# Altium schematic symbol library Schlib_Connfly.SchLib: 126 symbols
Pins are listed as number, name and electrical type; pins without a type are passive.

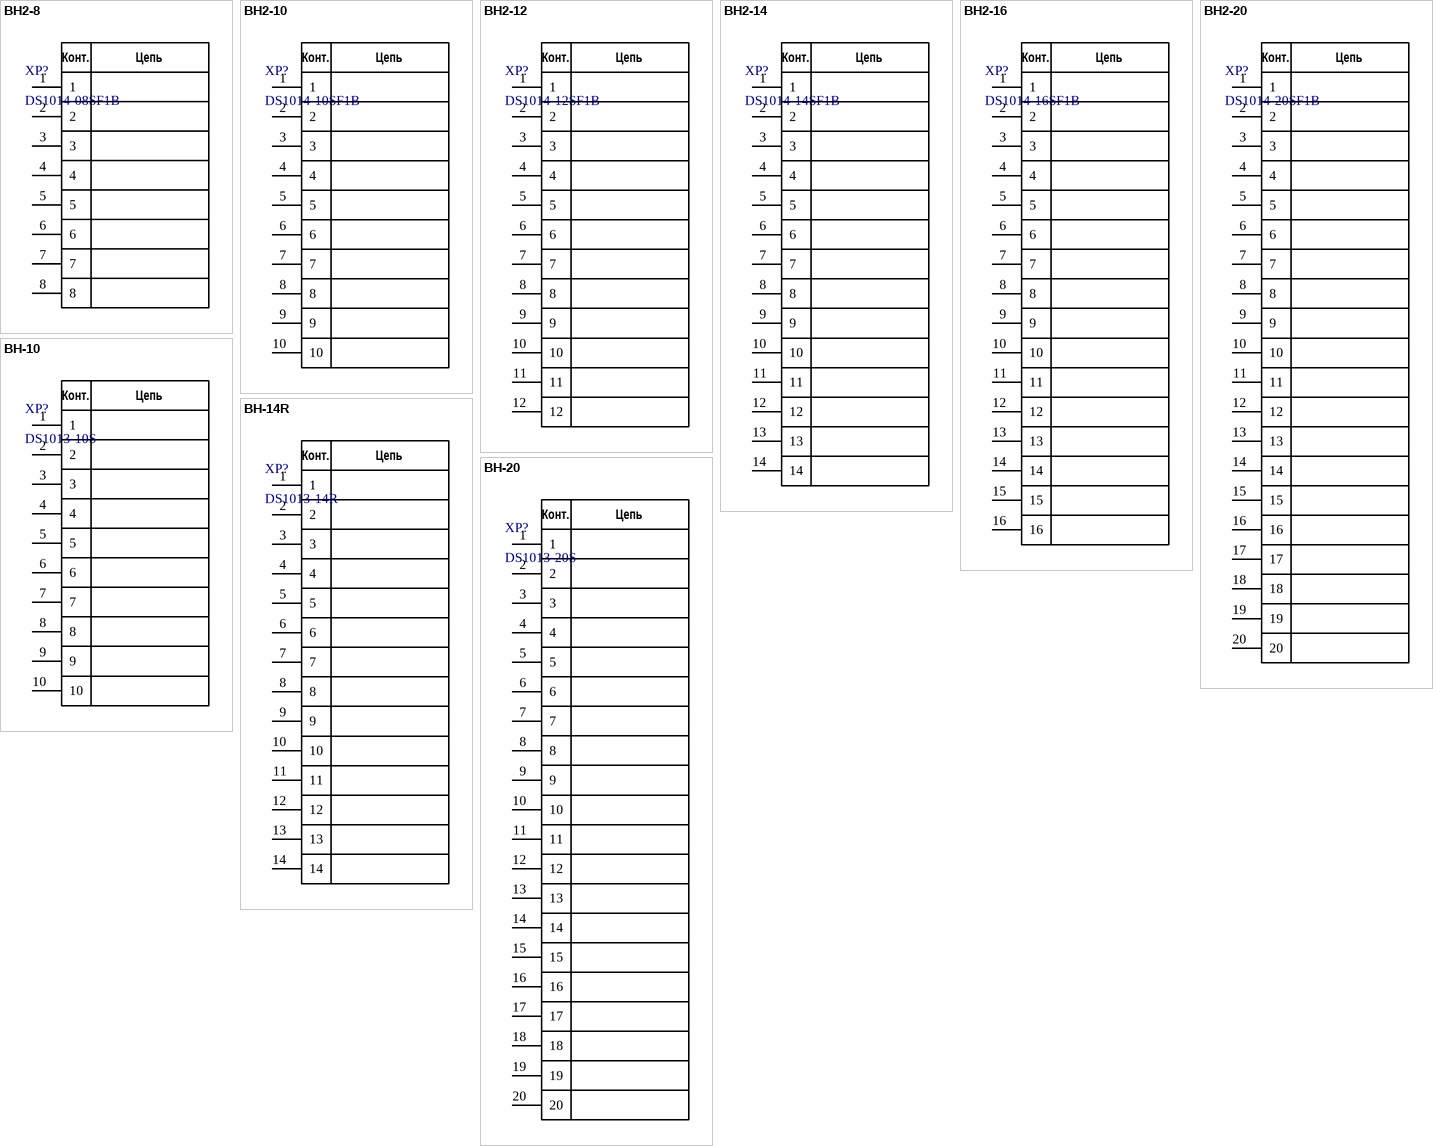
[diagram p0: symbols BH2-8 to BH-20]

## BH2-8
designator XP?, comment DS1014-08SF1B
8-pin 2.0 mm Box header elevator type; Manufacturer: Connfly; Part Number: DS1014-08SF1B
footprint BH2-8
pins: 1, 2, 3, 4, 5, 6, 7, 8
text: Конт.; Цепь

## BH2-10
designator XP?, comment DS1014-10SF1B
10-pin 2.0 mm Box header elevator type; Manufacturer: Connfly; Part Number: DS1014-10SF1B
footprint BH2-10
pins: 1, 2, 3, 4, 5, 6, 7, 8, 9, 10
text: Конт.; Цепь

## BH2-12
designator XP?, comment DS1014-12SF1B
12-pin 2.0 mm Box header elevator type; Manufacturer: Connfly; Part Number: DS1014-12SF1B
footprint BH2-12
pins: 1, 2, 3, 4, 5, 6, 7, 8, 9, 10, 11, 12
text: Конт.; Цепь

## BH2-14
designator XP?, comment DS1014-14SF1B
14-pin 2.0 mm Box header elevator type; Manufacturer: Connfly; Part Number: DS1014-14SF1B
footprint BH2-14
pins: 1, 2, 3, 4, 5, 6, 7, 8, 9, 10, 11, 12, 13, 14
text: Конт.; Цепь

## BH2-16
designator XP?, comment DS1014-16SF1B
16-pin 2.0 mm Box header elevator type; Manufacturer: Connfly; Part Number: DS1014-16SF1B
footprint BH2-16
pins: 1, 2, 3, 4, 5, 6, 7, 8, 9, 10, 11, 12, 13, 14, 15, 16
text: Конт.; Цепь

## BH2-20
designator XP?, comment DS1014-20SF1B
20-pin 2.0 mm Box header elevator type; Manufacturer: Connfly; Part Number: DS1014-20SF1B
footprint BH2-20
pins: 1, 2, 3, 4, 5, 6, 7, 8, 9, 10, 11, 12, 13, 14, 15, 16, 17, 18, 19, 20
text: Конт.; Цепь

## BH-10
designator XP?, comment DS1013-10S
10-pin 2.54 mm Box header elevator type; Manufacturer: Connfly; Part Number: DS1013-10S
footprint BH-10 (DS1013-10S CONNFLY)
pins: 1, 2, 3, 4, 5, 6, 7, 8, 9, 10
text: Конт.; Цепь

## BH-14R
designator XP?, comment DS1013-14R
14-pin 2.54 mm Box header elevator type, right angle; Manufacturer: Connfly; Part Number: DS1013-14R
footprint BH-14R
pins: 1, 2, 3, 4, 5, 6, 7, 8, 9, 10, 11, 12, 13, 14
text: Конт.; Цепь

## BH-20
designator XP?, comment DS1013-20S
20-pin 2.54 mm Box header elevator type; Manufacturer: Connfly; Part Number: DS1013-20S
footprint BH-20
pins: 1, 2, 3, 4, 5, 6, 7, 8, 9, 10, 11, 12, 13, 14, 15, 16, 17, 18, 19, 20
text: Конт.; Цепь

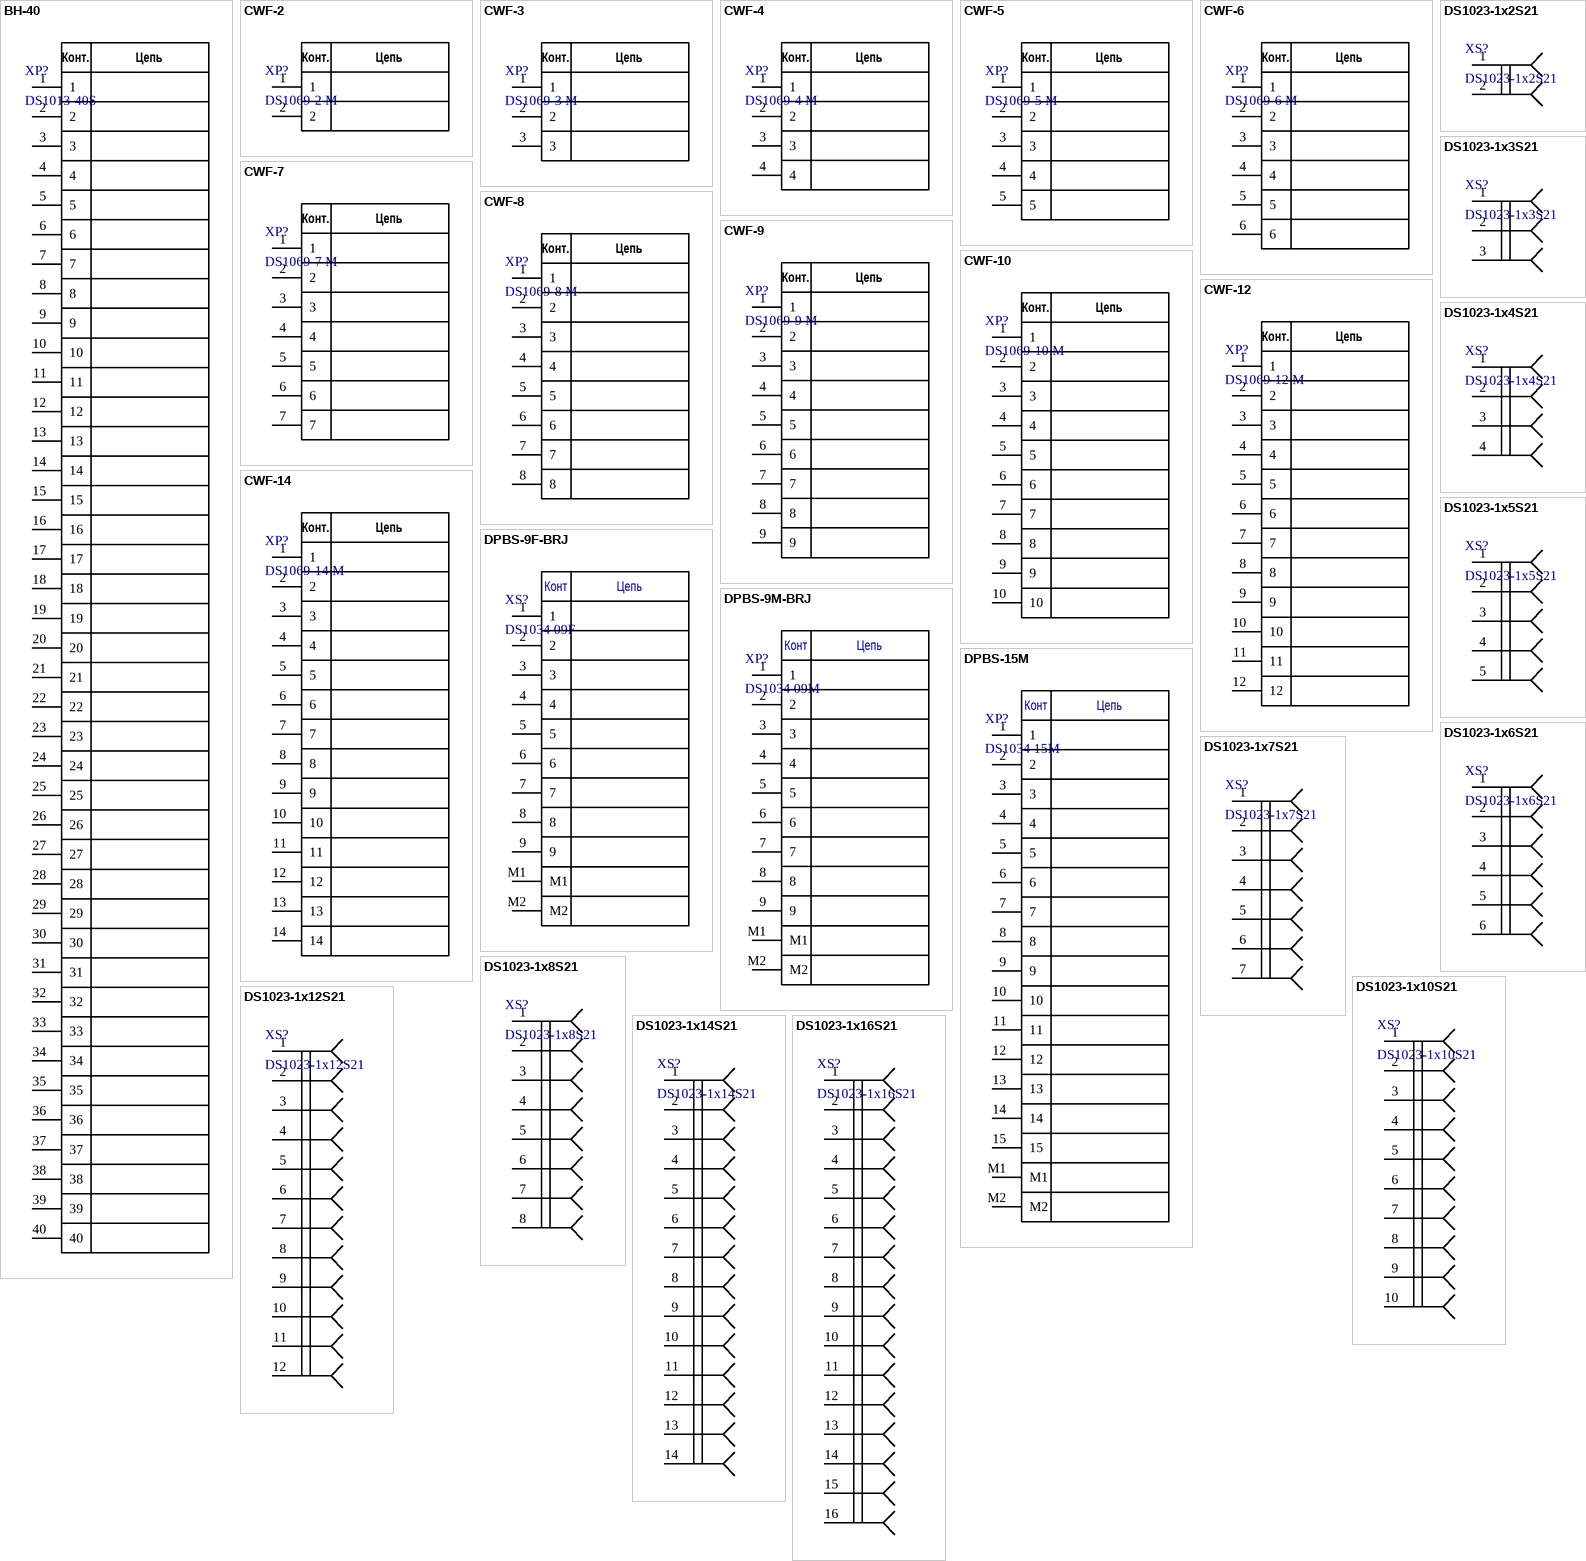
[diagram p1: symbols BH-40 to DS1023-1x16S21]

## BH-40
designator XP?, comment DS1013-40S
40-pin 2.54 mm Box header elevator type; Manufacturer: Connfly; Part Number: DS1013-40S
footprint BH-40R
pins: 1, 2, 3, 4, 5, 6, 7, 8, 9, 10, 11, 12, 13, 14, 15, 16, 17, 18, 19, 20, 21, 22, 23, 24, 25, 26, 27, 28, 29, 30, 31, 32, 33, 34, 35, 36, 37, 38, 39, 40
text: Конт.; Цепь

## CWF-2
designator XP?, comment DS1069-2 M
2-pin connector 2.5mm XH Type; Manufacturer: Connfly; Part Number: DS1069-2 M
footprint CWF-2
pins: 1, 2
text: Конт.; Цепь

## CWF-3
designator XP?, comment DS1069-3 M
3-pin connector 2.5mm XH Type; Manufacturer: Connfly; Part Number: DS1069-3 M
footprint CWF-3
pins: 1, 2, 3
text: Конт.; Цепь

## CWF-4
designator XP?, comment DS1069-4 M
4-pin connector 2.5mm XH Type; Manufacturer: Connfly; Part Number: DS1069-4 M
footprint CWF-4
pins: 1, 2, 3, 4
text: Конт.; Цепь

## CWF-5
designator XP?, comment DS1069-5 M
5-pin connector 2.5mm XH Type; Manufacturer: Connfly; Part Number: DS1069-5 M
footprint CWF-5
pins: 1, 2, 3, 4, 5
text: Конт.; Цепь

## CWF-6
designator XP?, comment DS1069-6 M
6-pin connector 2.5mm XH Type; Manufacturer: Connfly; Part Number: DS1069-6 M
footprint CWF-6
pins: 1, 2, 3, 4, 5, 6
text: Конт.; Цепь

## CWF-7
designator XP?, comment DS1069-7 M
7-pin connector 2.5mm XH Type; Manufacturer: Connfly; Part Number: DS1069-7 M
footprint CWF-7
pins: 1, 2, 3, 4, 5, 6, 7
text: Конт.; Цепь

## CWF-8
designator XP?, comment DS1069-8 M
8-pin connector 2.5mm XH Type; Manufacturer: Connfly; Part Number: DS1069-8 M
footprint CWF-8
pins: 1, 2, 3, 4, 5, 6, 7, 8
text: Конт.; Цепь

## CWF-9
designator XP?, comment DS1069-9 M
9-pin connector 2.5mm XH Type; Manufacturer: Connfly; Part Number: DS1069-9 M
footprint CWF-9
pins: 1, 2, 3, 4, 5, 6, 7, 8, 9
text: Конт.; Цепь

## CWF-10
designator XP?, comment DS1069-10 M
10-pin connector 2.5mm XH Type; Manufacturer: Connfly; Part Number: DS1069-10 M
footprint CWF-10
pins: 1, 2, 3, 4, 5, 6, 7, 8, 9, 10
text: Конт.; Цепь

## CWF-12
designator XP?, comment DS1069-12 M
12-pin connector 2.5mm XH Type; Manufacturer: Connfly; Part Number: DS1069-12 M
footprint CWF-12
pins: 1, 2, 3, 4, 5, 6, 7, 8, 9, 10, 11, 12
text: Конт.; Цепь

## CWF-14
designator XP?, comment DS1069-14 M
14-pin connector 2.5mm XH Type; Manufacturer: Connfly; Part Number: DS1069-14 M
footprint CWF-14
pins: 1, 2, 3, 4, 5, 6, 7, 8, 9, 10, 11, 12, 13, 14
text: Конт.; Цепь

## DPBS-9F-BRJ
designator XS?, comment DS1034 09F
D-SUB 9pin Female; Manufacturer: Connfly; Part Number: DS1034 09F
footprint DPBS-9F
pins: 1, 2, 3, 4, 5, 6, 7, 8, 9, M1, M2
text: Конт; Цепь

## DPBS-9M-BRJ
designator XP?, comment DS1034 09M
D-SUB 9pin Male; Manufacturer: Connfly; Part Number: DS1034 09M
footprint DPBS-9M
pins: 1, 2, 3, 4, 5, 6, 7, 8, 9, M1, M2
text: Конт; Цепь

## DPBS-15M
designator XP?, comment DS1034 15M
D-SUB 15pin Male; Manufacturer: Connfly; Part Number: DS1034 15M
footprint DPBS-15M
pins: 1, 2, 3, 4, 5, 6, 7, 8, 9, 10, 11, 12, 13, 14, 15, M1, M2
text: Конт; Цепь

## DS1023-1x2S21
designator XS?
2.54mm Female Header V/T Type, H = 8.5mm; Manufacturer: Connfly; Part Number: DS1023-1x2S21
footprint PBS-2 (H = 8.5mm)
pins: 1, 2

## DS1023-1x3S21
designator XS?
2.54mm Female Header V/T Type, H = 8.5mm; Manufacturer: Connfly; Part Number: DS1023-1x3S21
footprint PBS-3 (H = 8.5mm)
pins: 1, 2, 3

## DS1023-1x4S21
designator XS?
2.54mm Female Header V/T Type, H = 8.5mm; Manufacturer: Connfly; Part Number: DS1023-1x4S21
footprint PBS-4 (H = 8.5mm)
pins: 1, 2, 3, 4

## DS1023-1x5S21
designator XS?
2.54mm Female Header V/T Type, H = 8.5mm; Manufacturer: Connfly; Part Number: DS1023-1x5S21
footprint PBS-5 (H = 8.5mm)
pins: 1, 2, 3, 4, 5

## DS1023-1x6S21
designator XS?
2.54mm Female Header V/T Type, H = 8.5mm; Manufacturer: Connfly; Part Number: DS1023-1x6S21
footprint PBS-6 (H = 8.5mm)
footprint PBS-6(blue) (H = 8.5mm)
pins: 1, 2, 3, 4, 5, 6

## DS1023-1x7S21
designator XS?
2.54mm Female Header V/T Type, H = 8.5mm; Manufacturer: Connfly; Part Number: DS1023-1x7S21
footprint PBS-7 (H = 8.5mm)
pins: 1, 2, 3, 4, 5, 6, 7

## DS1023-1x8S21
designator XS?
2.54mm Female Header V/T Type, H = 8.5mm; Manufacturer: Connfly; Part Number: DS1023-1x8S21
footprint PBS-8 (H = 8.5mm)
footprint PBS-8(BLUE) (H = 8.5mm)
pins: 1, 2, 3, 4, 5, 6, 7, 8

## DS1023-1x10S21
designator XS?
2.54mm Female Header V/T Type, H = 8.5mm; Manufacturer: Connfly; Part Number: DS1023-1x10S21
footprint PBS-10 (H = 8.5mm)
footprint PBS-10(BLUE) (H = 8.5mm)
pins: 1, 2, 3, 4, 5, 6, 7, 8, 9, 10

## DS1023-1x12S21
designator XS?
2.54mm Female Header V/T Type, H = 8.5mm; Manufacturer: Connfly; Part Number: DS1023-1x12S21
footprint PBS-12 (H = 8.5mm)
pins: 1, 2, 3, 4, 5, 6, 7, 8, 9, 10, 11, 12

## DS1023-1x14S21
designator XS?
2.54mm Female Header V/T Type, H = 8.5mm; Manufacturer: Connfly; Part Number: DS1023-1x14S21
footprint PBS-14 (H = 8.5mm)
pins: 1, 2, 3, 4, 5, 6, 7, 8, 9, 10, 11, 12, 13, 14

## DS1023-1x16S21
designator XS?
2.54mm Female Header V/T Type, H = 8.5mm; Manufacturer: Connfly; Part Number: DS1023-1x16S21
footprint PBS-16 (H = 8.5mm)
pins: 1, 2, 3, 4, 5, 6, 7, 8, 9, 10, 11, 12, 13, 14, 15, 16

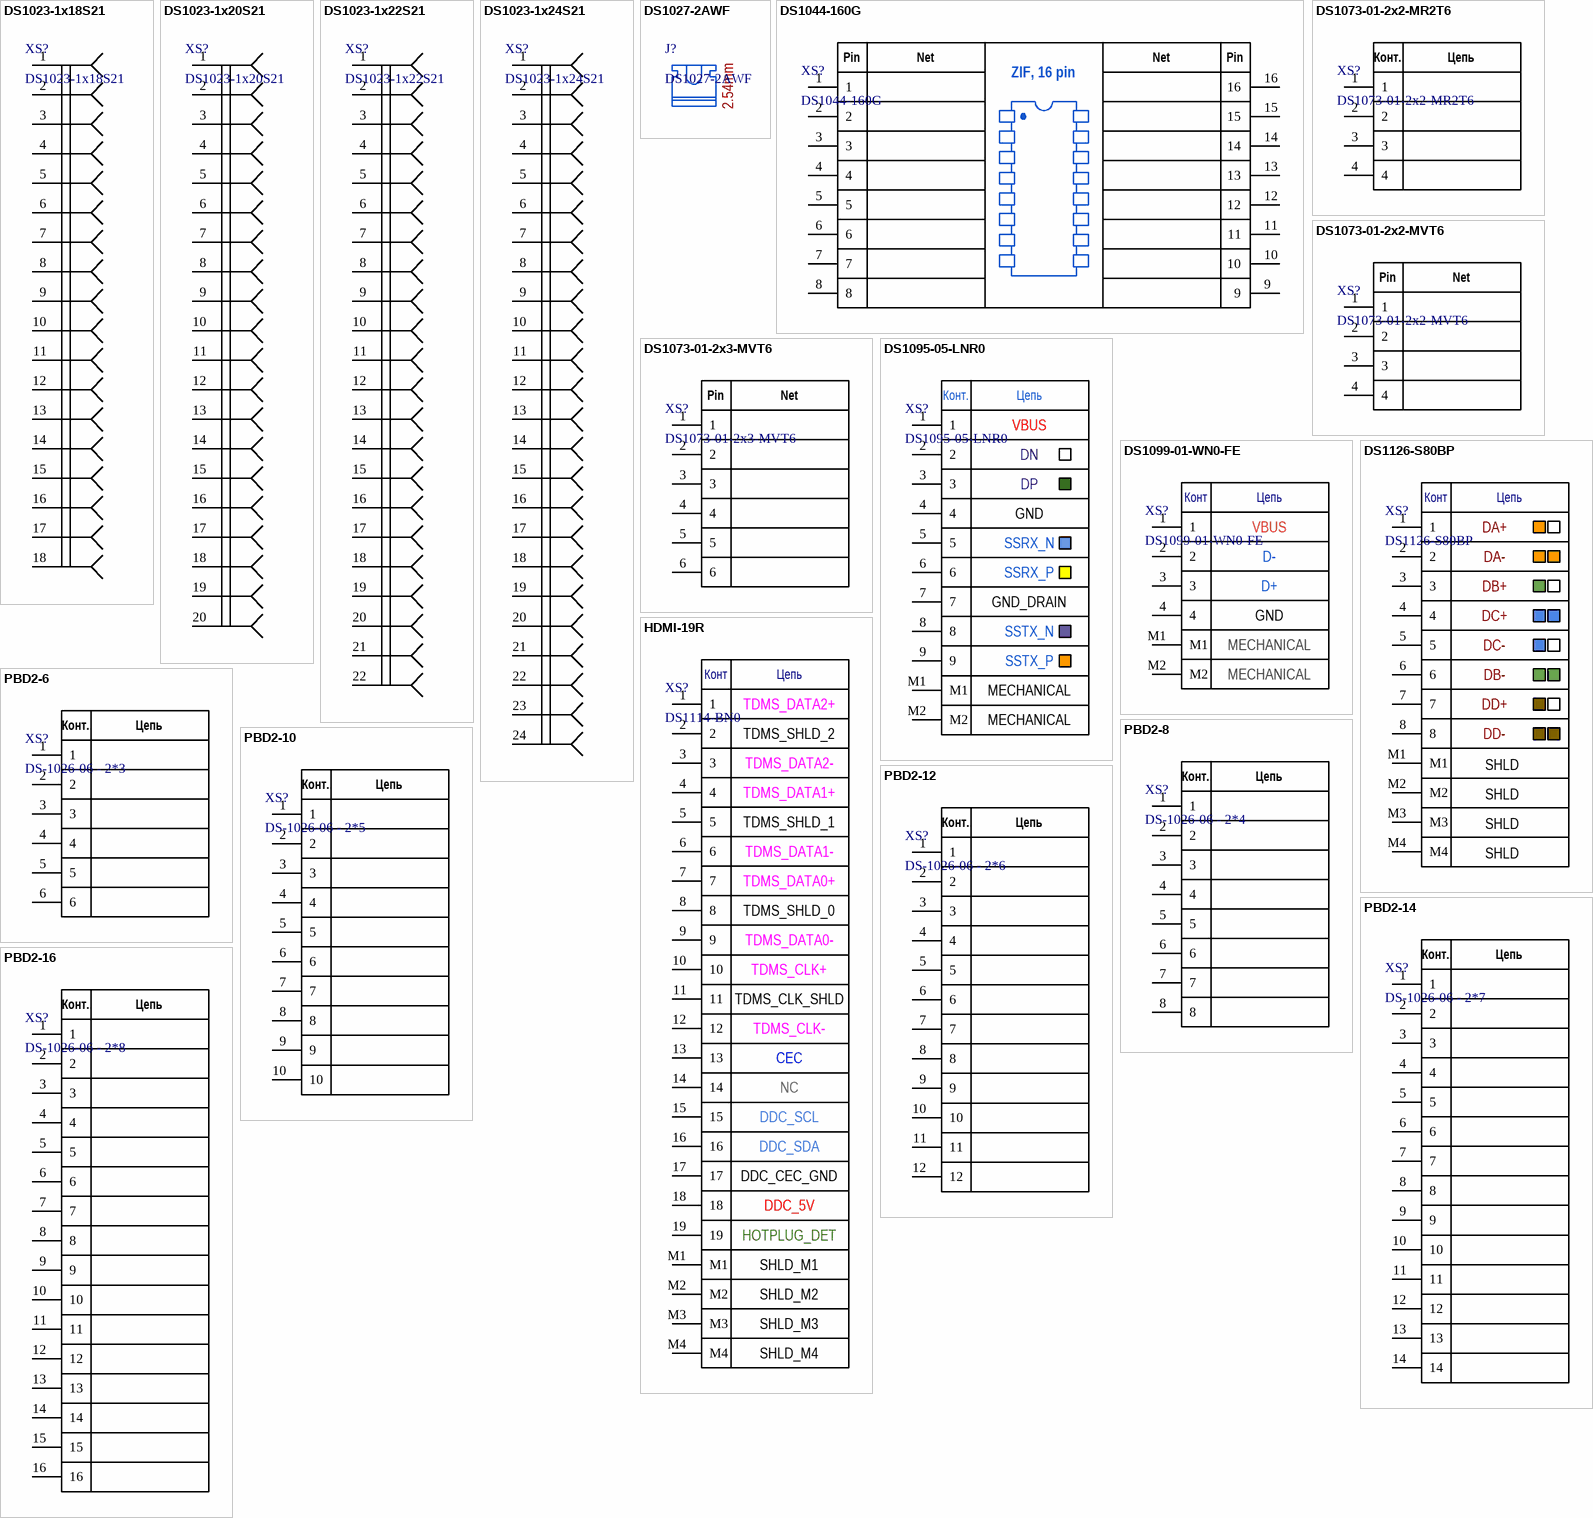
[diagram p2: symbols DS1023-1x18S21 to PBD2-16]

## DS1023-1x18S21
designator XS?
2.54mm Female Header V/T Type, H = 8.5mm; Manufacturer: Connfly; Part Number: DS1023-1x18S21
footprint PBS-18 (H = 8.5mm)
pins: 1, 2, 3, 4, 5, 6, 7, 8, 9, 10, 11, 12, 13, 14, 15, 16, 17, 18

## DS1023-1x20S21
designator XS?
2.54mm Female Header V/T Type, H = 8.5mm; Manufacturer: Connfly; Part Number: DS1023-1x20S21
footprint PBS-20 (H = 8.5mm)
pins: 1, 2, 3, 4, 5, 6, 7, 8, 9, 10, 11, 12, 13, 14, 15, 16, 17, 18, 19, 20

## DS1023-1x22S21
designator XS?
2.54mm Female Header V/T Type, H = 8.5mm; Manufacturer: Connfly; Part Number: DS1023-1x22S21
footprint PBS-22 (H = 8.5mm)
pins: 1, 2, 3, 4, 5, 6, 7, 8, 9, 10, 11, 12, 13, 14, 15, 16, 17, 18, 19, 20, 21, 22

## DS1023-1x24S21
designator XS?
2.54mm Female Header V/T Type, H = 8.5mm; Manufacturer: Connfly; Part Number: DS1023-1x24S21
footprint PBS-24 (H = 8.5mm)
pins: 1, 2, 3, 4, 5, 6, 7, 8, 9, 10, 11, 12, 13, 14, 15, 16, 17, 18, 19, 20, 21, 22, 23, 24

## DS1027-2AWF
designator J?  (mechanical)
Jumper 2.54mm; Manufacturer: Connfly; Part Number: DS1027-2AWF
text: 2.54mm

## DS1044-160G
designator XS?
16-pin 7.62mm ZIF Socket; Manufacturer: Connfly; Part Number: DS1044-160G
footprint DS1044-160G (ZIF Socket, 16 pin)
pins: 1, 2, 3, 4, 5, 6, 7, 8, 9, 10, 11, 12, 13, 14, 15, 16
text: Pin; Net; ZIF, 16 pin

## DS1073-01-2x2-MR2T6
designator XS?
ATX 4 pin right angle; Manufacturer: Connfly; Part Number: DS1073-01-2x2-MR2T6
footprint DS1073-01-2x2-MR2T6
pins: 1, 2, 3, 4
text: Конт.; Цепь

## DS1073-01-2x2-MVT6
designator XS?
ATX 4 pin; Manufacturer: Connfly; Part Number: DS1073-01-2x2-MVT6
footprint DS1073-01-2x2-MVT6
pins: 1, 2, 3, 4
text: Pin; Net

## DS1073-01-2x3-MVT6
designator XS?
ATX 6 pin; Manufacturer: Connfly; Part Number: DS1073-01-2x3-MVT6
footprint DS1073-01-2x3-MVT6
pins: 1, 2, 3, 4, 5, 6
text: Pin; Net

## DS1095-05-LNR0
designator XS?
USB 3.0 A (DS1095-05); Manufacturer: Connfly; Part Number: DS1095-05-LNR0
footprint DS1095-05
footprint DS1095-05_SLOTS
pins: 1, 2, 3, 4, 5, 6, 7, 8, 9, M1, M2
text: Конт.; Цепь; VBUS; DN; DP; GND; SSRX_N; SSRX_P; GND_DRAIN; SSTX_N; SSTX_P; MECHANICAL

## DS1099-01-WN0-FE
designator XS?
USB Type B Vertical Female; Manufacturer: Connfly; Part Number: DS1099-01-WN0-FE
footprint DS1099-01-WN0-FE
pins: 1, 2, 3, 4, M1, M2
text: Конт; Цепь; VBUS; D-; D+; GND; MECHANICAL

## DS1126-S80BP
designator XS?
RJ-45; Manufacturer: Connfly; Part Number: DS1126-S80BP
footprint DS1126-S80BP (Ethernet RJ-45 Socket)
pins: 1, 2, 3, 4, 5, 6, 7, 8, M1, M2, M3, M4
text: Конт; Цепь; DA+; DA-; DB+; DC+; DC-; DB-; DD+; DD-; SHLD

## HDMI-19R
designator XS?, comment DS1114-BN0
HDMI Connector; Manufacturer: Connfly; Part Number: DS1114-BN0
footprint DS1114-BN0
pins: 1, 2, 3, 4, 5, 6, 7, 8, 9, 10, 11, 12, 13, 14, 15, 16, 17, 18, 19, M1, M2, M3, M4
text: Конт; Цепь; TDMS_DATA2+; TDMS_SHLD_2; TDMS_DATA2-; TDMS_DATA1+; TDMS_SHLD_1; TDMS_DATA1-; TDMS_DATA0+; TDMS_SHLD_0; TDMS_DATA0-; TDMS_CLK+; TDMS_CLK_SHLD; TDMS_CLK-; CEC; NC; DDC_SCL; DDC_SDA; DDC_CEC_GND; DDC_5V; HOTPLUG_DET; SHLD_M1; SHLD_M2; SHLD_M3; SHLD_M4

## PBD2-6
designator XS?, comment DS-1026-06 - 2*3
2.00mm Pin Socket Double Row R/A Type; Manufacturer: Connfly; Part Number: DS-1026-06 - 2*3
footprint PBD2-6
pins: 1, 2, 3, 4, 5, 6
text: Конт.; Цепь

## PBD2-8
designator XS?, comment DS-1026-06 - 2*4
2.00mm Pin Socket Double Row R/A Type; Manufacturer: Connfly; Part Number: DS-1026-06 - 2*4
footprint PBD2-8
pins: 1, 2, 3, 4, 5, 6, 7, 8
text: Конт.; Цепь

## PBD2-10
designator XS?, comment DS-1026-06 - 2*5
2.00mm Pin Socket Double Row R/A Type; Manufacturer: Connfly; Part Number: DS-1026-06 - 2*5
footprint PBD2-10
pins: 1, 2, 3, 4, 5, 6, 7, 8, 9, 10
text: Конт.; Цепь

## PBD2-12
designator XS?, comment DS-1026-06 - 2*6
2.00mm Pin Socket Double Row R/A Type; Manufacturer: Connfly; Part Number: DS-1026-06 - 2*6
footprint PBD2-12
pins: 1, 2, 3, 4, 5, 6, 7, 8, 9, 10, 11, 12
text: Конт.; Цепь

## PBD2-14
designator XS?, comment DS-1026-06 - 2*7
2.00mm Pin Socket Double Row R/A Type; Manufacturer: Connfly; Part Number: DS-1026-06 - 2*7
footprint PBD2-14
pins: 1, 2, 3, 4, 5, 6, 7, 8, 9, 10, 11, 12, 13, 14
text: Конт.; Цепь

## PBD2-16
designator XS?, comment DS-1026-06 - 2*8
2.00mm Pin Socket Double Row R/A Type; Manufacturer: Connfly; Part Number: DS-1026-06 - 2*8
footprint PBD2-16
pins: 1, 2, 3, 4, 5, 6, 7, 8, 9, 10, 11, 12, 13, 14, 15, 16
text: Конт.; Цепь

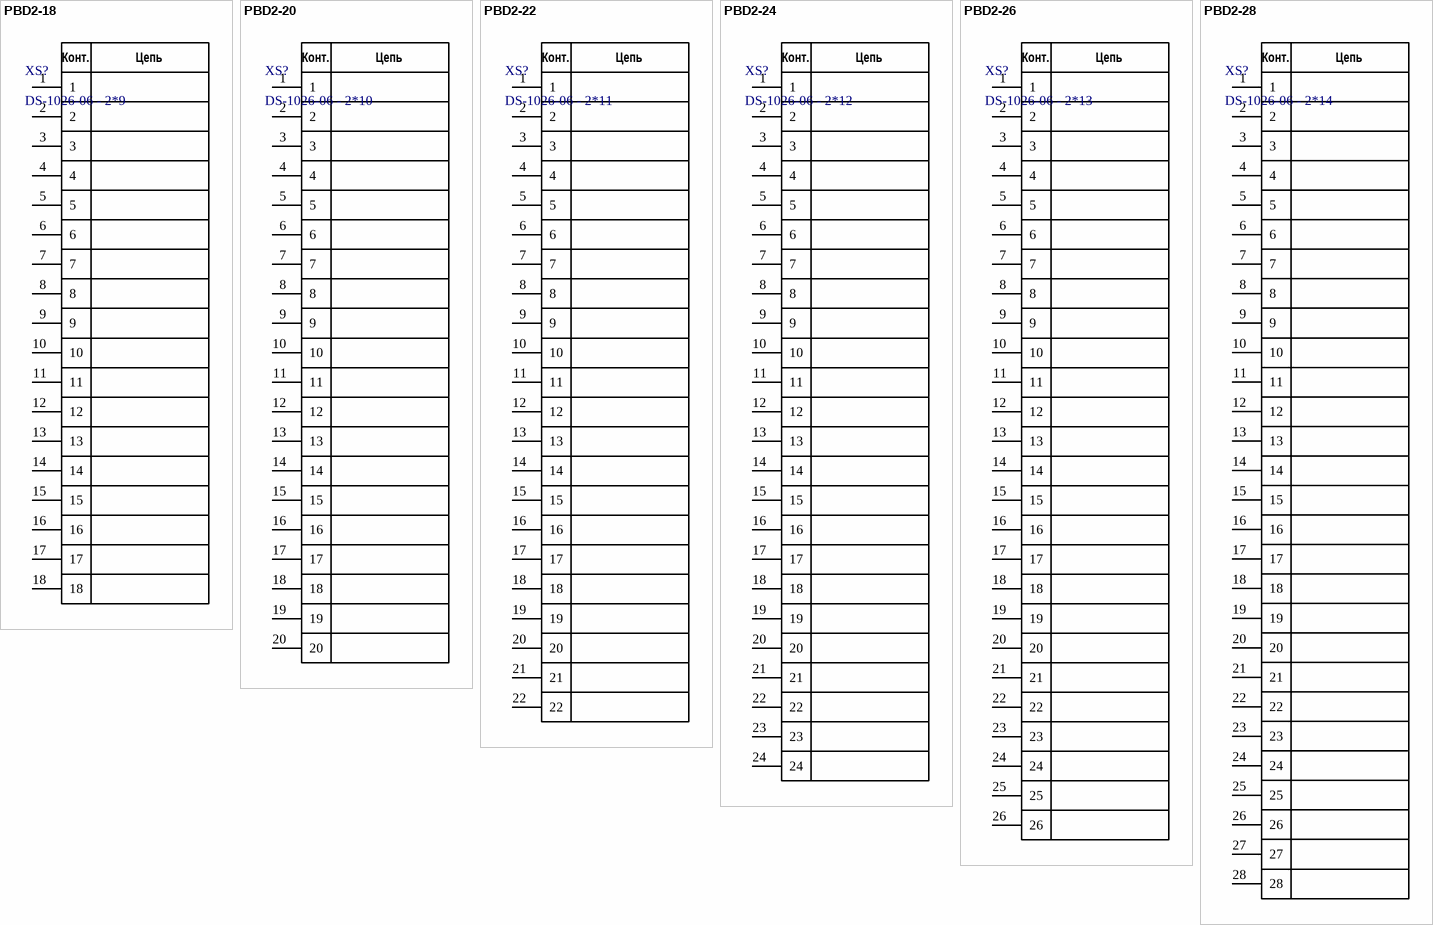
[diagram p3: symbols PBD2-18 to PBD2-28]

## PBD2-18
designator XS?, comment DS-1026-06 - 2*9
2.00mm Pin Socket Double Row R/A Type; Manufacturer: Connfly; Part Number: DS-1026-06 - 2*9
footprint PBD2-18
pins: 1, 2, 3, 4, 5, 6, 7, 8, 9, 10, 11, 12, 13, 14, 15, 16, 17, 18
text: Конт.; Цепь

## PBD2-20
designator XS?, comment DS-1026-06 - 2*10
2.00mm Pin Socket Double Row R/A Type; Manufacturer: Connfly; Part Number: DS-1026-06 - 2*10
footprint PBD2-20
pins: 1, 2, 3, 4, 5, 6, 7, 8, 9, 10, 11, 12, 13, 14, 15, 16, 17, 18, 19, 20
text: Конт.; Цепь

## PBD2-22
designator XS?, comment DS-1026-06 - 2*11
2.00mm Pin Socket Double Row R/A Type; Manufacturer: Connfly; Part Number: DS-1026-06 - 2*11
footprint PBD2-22
pins: 1, 2, 3, 4, 5, 6, 7, 8, 9, 10, 11, 12, 13, 14, 15, 16, 17, 18, 19, 20, 21, 22
text: Конт.; Цепь

## PBD2-24
designator XS?, comment DS-1026-06 - 2*12
2.00mm Pin Socket Double Row R/A Type; Manufacturer: Connfly; Part Number: DS-1026-06 - 2*12
footprint PBD2-24
pins: 1, 2, 3, 4, 5, 6, 7, 8, 9, 10, 11, 12, 13, 14, 15, 16, 17, 18, 19, 20, 21, 22, 23, 24
text: Конт.; Цепь

## PBD2-26
designator XS?, comment DS-1026-06 - 2*13
2.00mm Pin Socket Double Row R/A Type; Manufacturer: Connfly; Part Number: DS-1026-06 - 2*13
footprint PBD2-26
pins: 1, 2, 3, 4, 5, 6, 7, 8, 9, 10, 11, 12, 13, 14, 15, 16, 17, 18, 19, 20, 21, 22, 23, 24, 25, 26
text: Конт.; Цепь

## PBD2-28
designator XS?, comment DS-1026-06 - 2*14
2.00mm Pin Socket Double Row R/A Type; Manufacturer: Connfly; Part Number: DS-1026-06 - 2*14
footprint PBD2-28
pins: 1, 2, 3, 4, 5, 6, 7, 8, 9, 10, 11, 12, 13, 14, 15, 16, 17, 18, 19, 20, 21, 22, 23, 24, 25, 26, 27, 28
text: Конт.; Цепь

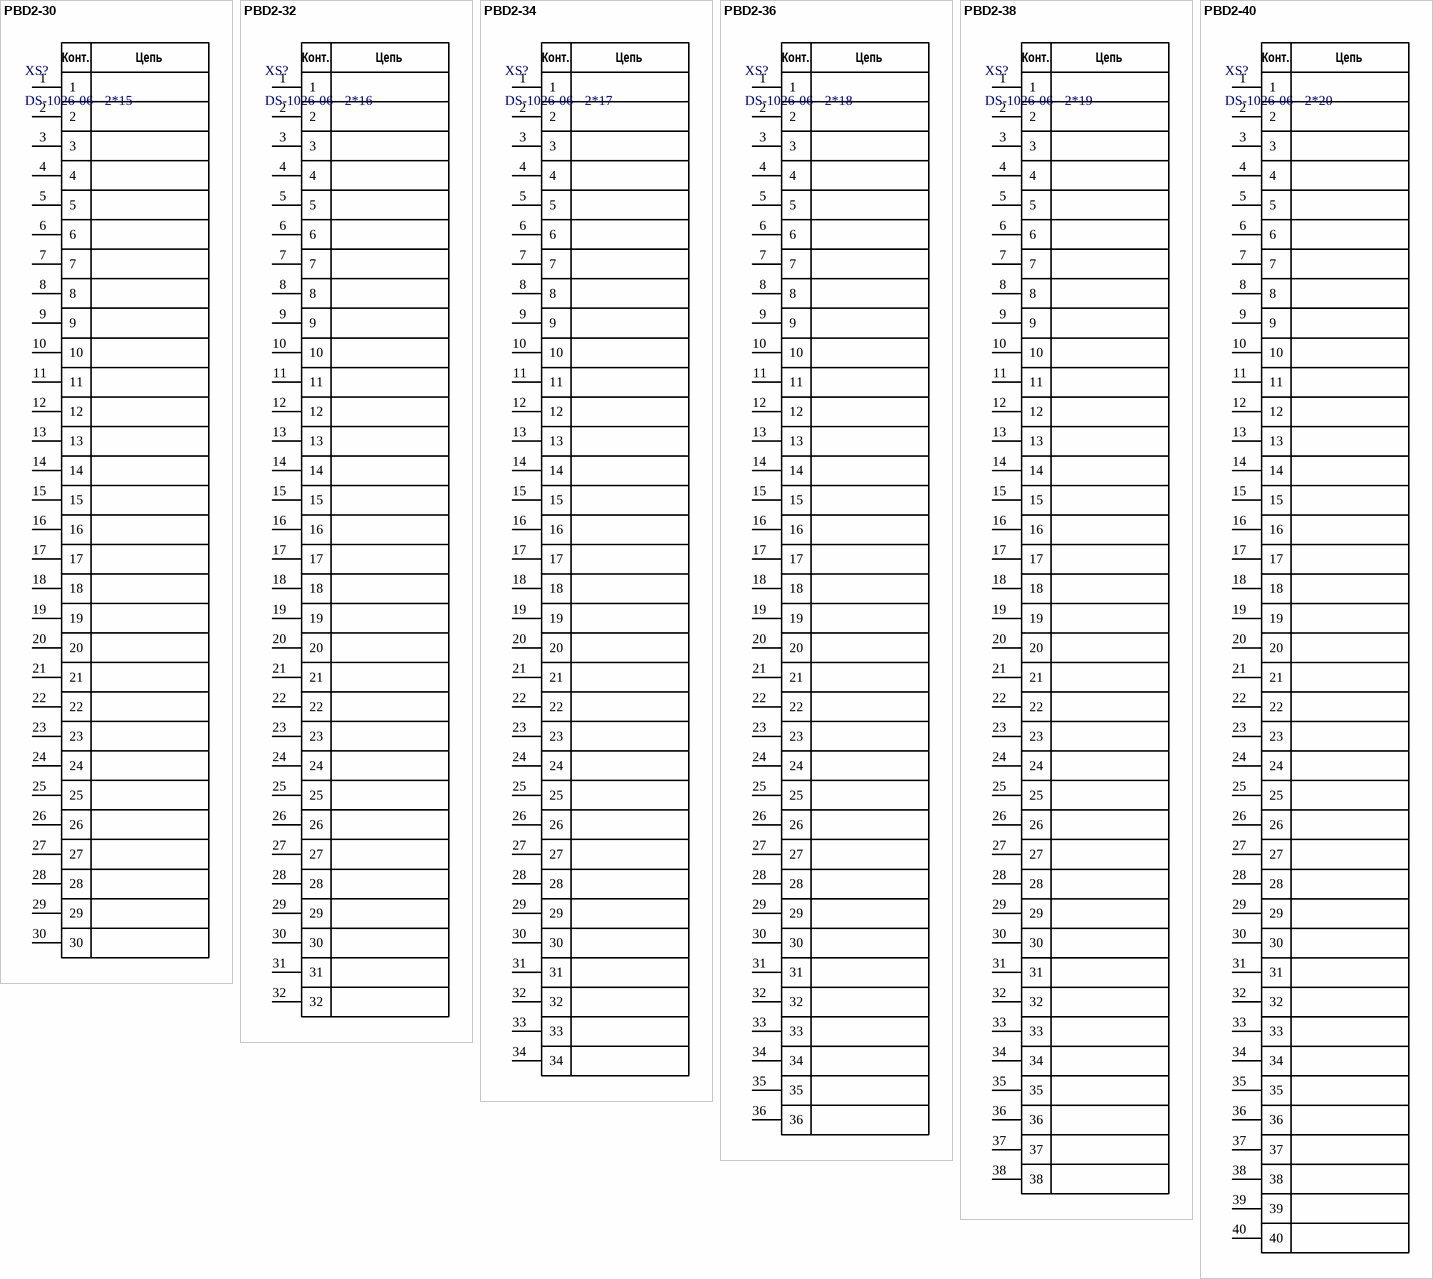
[diagram p4: symbols PBD2-30 to PBD2-40]

## PBD2-30
designator XS?, comment DS-1026-06 - 2*15
2.00mm Pin Socket Double Row R/A Type; Manufacturer: Connfly; Part Number: DS-1026-06 - 2*15
footprint PBD2-30
pins: 1, 2, 3, 4, 5, 6, 7, 8, 9, 10, 11, 12, 13, 14, 15, 16, 17, 18, 19, 20, 21, 22, 23, 24, 25, 26, 27, 28, 29, 30
text: Конт.; Цепь

## PBD2-32
designator XS?, comment DS-1026-06 - 2*16
2.00mm Pin Socket Double Row R/A Type; Manufacturer: Connfly; Part Number: DS-1026-06 - 2*16
footprint PBD2-32
pins: 1, 2, 3, 4, 5, 6, 7, 8, 9, 10, 11, 12, 13, 14, 15, 16, 17, 18, 19, 20, 21, 22, 23, 24, 25, 26, 27, 28, 29, 30, 31, 32
text: Конт.; Цепь

## PBD2-34
designator XS?, comment DS-1026-06 - 2*17
2.00mm Pin Socket Double Row R/A Type; Manufacturer: Connfly; Part Number: DS-1026-06 - 2*17
footprint PBD2-34
pins: 1, 2, 3, 4, 5, 6, 7, 8, 9, 10, 11, 12, 13, 14, 15, 16, 17, 18, 19, 20, 21, 22, 23, 24, 25, 26, 27, 28, 29, 30, 31, 32, 33, 34
text: Конт.; Цепь

## PBD2-36
designator XS?, comment DS-1026-06 - 2*18
2.00mm Pin Socket Double Row R/A Type; Manufacturer: Connfly; Part Number: DS-1026-06 - 2*18
footprint PBD2-36
pins: 1, 2, 3, 4, 5, 6, 7, 8, 9, 10, 11, 12, 13, 14, 15, 16, 17, 18, 19, 20, 21, 22, 23, 24, 25, 26, 27, 28, 29, 30, 31, 32, 33, 34, 35, 36
text: Конт.; Цепь

## PBD2-38
designator XS?, comment DS-1026-06 - 2*19
2.00mm Pin Socket Double Row R/A Type; Manufacturer: Connfly; Part Number: DS-1026-06 - 2*19
footprint PBD2-38
pins: 1, 2, 3, 4, 5, 6, 7, 8, 9, 10, 11, 12, 13, 14, 15, 16, 17, 18, 19, 20, 21, 22, 23, 24, 25, 26, 27, 28, 29, 30, 31, 32, 33, 34, 35, 36, 37, 38
text: Конт.; Цепь

## PBD2-40
designator XS?, comment DS-1026-06 - 2*20
2.00mm Pin Socket Double Row R/A Type; Manufacturer: Connfly; Part Number: DS-1026-06 - 2*20
footprint PBD2-40
pins: 1, 2, 3, 4, 5, 6, 7, 8, 9, 10, 11, 12, 13, 14, 15, 16, 17, 18, 19, 20, 21, 22, 23, 24, 25, 26, 27, 28, 29, 30, 31, 32, 33, 34, 35, 36, 37, 38, 39, 40
text: Конт.; Цепь

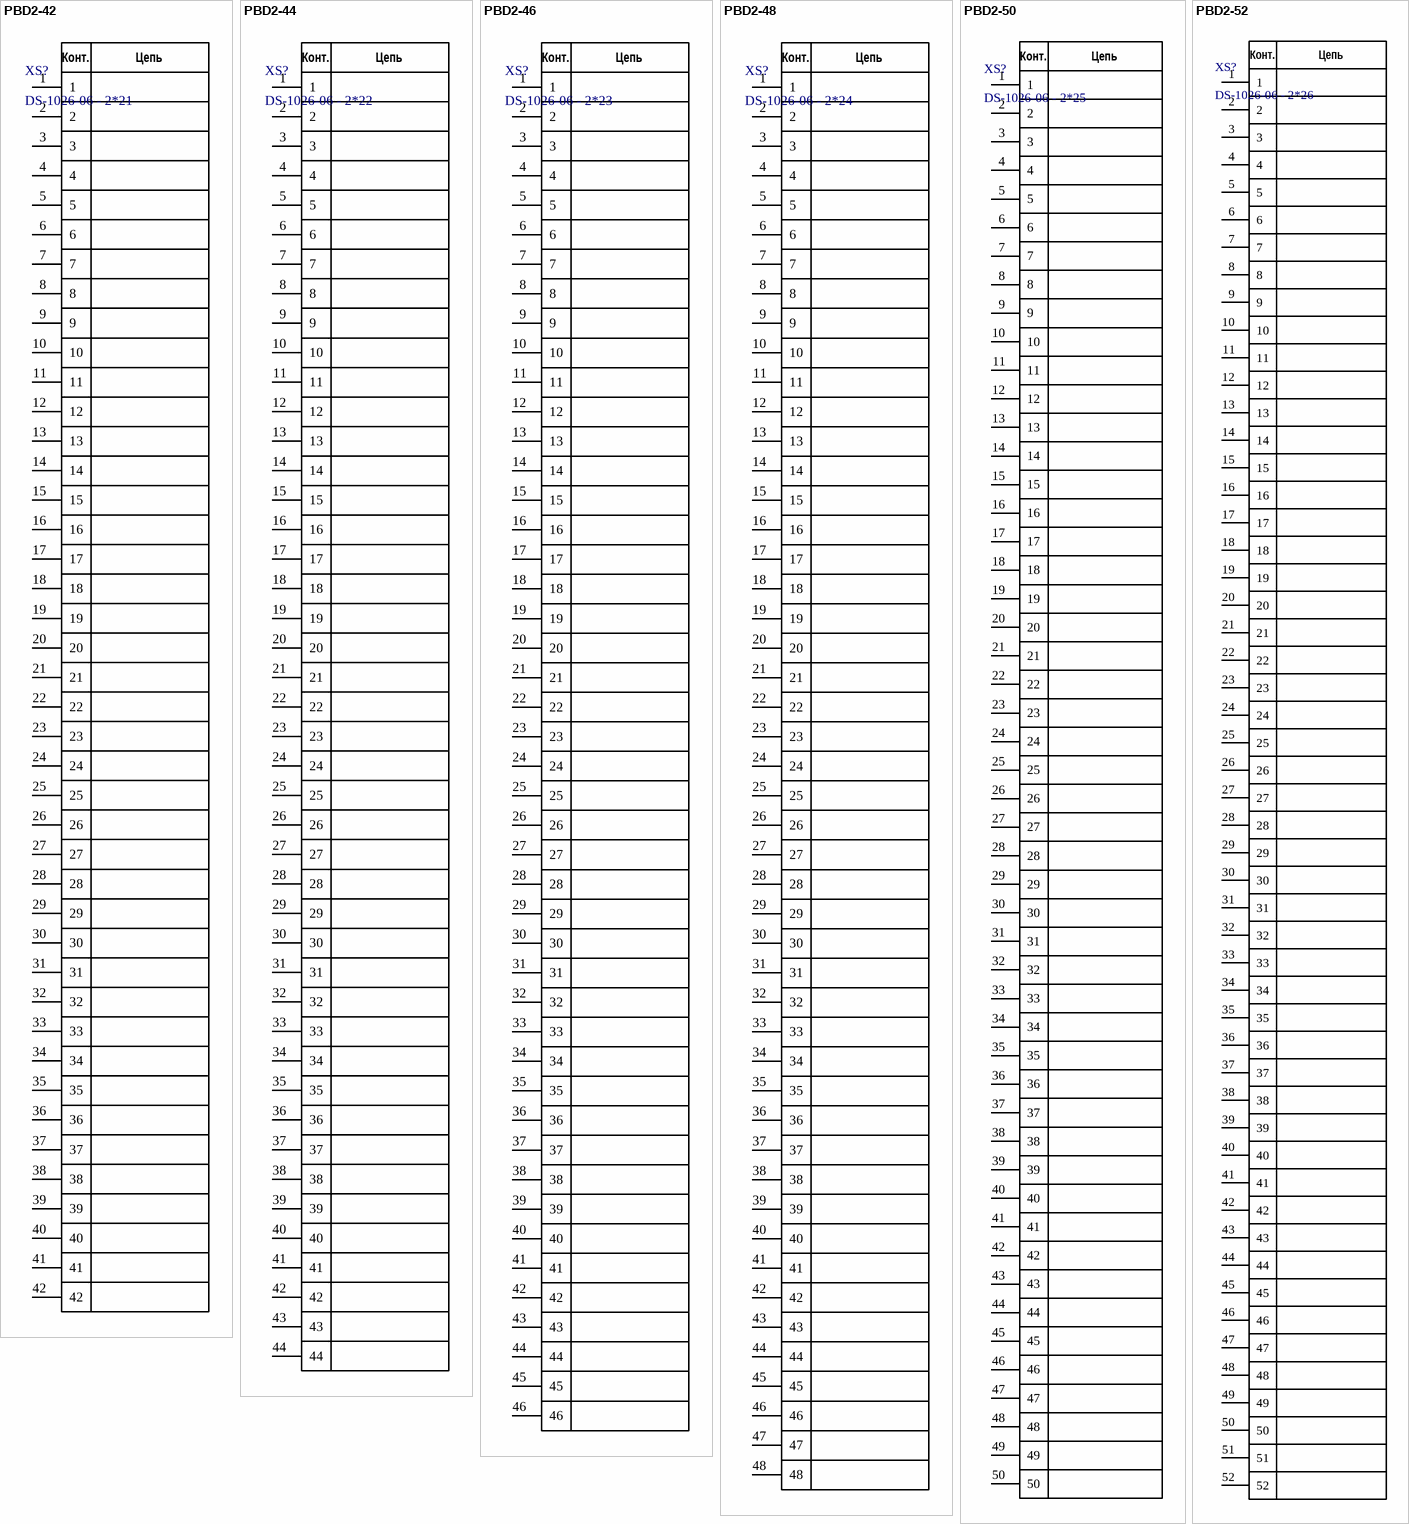
[diagram p5: symbols PBD2-42 to PBD2-52]

## PBD2-42
designator XS?, comment DS-1026-06 - 2*21
2.00mm Pin Socket Double Row R/A Type; Manufacturer: Connfly; Part Number: DS-1026-06 - 2*21
footprint PBD2-42
pins: 1, 2, 3, 4, 5, 6, 7, 8, 9, 10, 11, 12, 13, 14, 15, 16, 17, 18, 19, 20, 21, 22, 23, 24, 25, 26, 27, 28, 29, 30, 31, 32, 33, 34, 35, 36, 37, 38, 39, 40, 41, 42
text: Конт.; Цепь

## PBD2-44
designator XS?, comment DS-1026-06 - 2*22
2.00mm Pin Socket Double Row R/A Type; Manufacturer: Connfly; Part Number: DS-1026-06 - 2*22
footprint PBD2-44
pins: 1, 2, 3, 4, 5, 6, 7, 8, 9, 10, 11, 12, 13, 14, 15, 16, 17, 18, 19, 20, 21, 22, 23, 24, 25, 26, 27, 28, 29, 30, 31, 32, 33, 34, 35, 36, 37, 38, 39, 40, 41, 42, 43, 44
text: Конт.; Цепь

## PBD2-46
designator XS?, comment DS-1026-06 - 2*23
2.00mm Pin Socket Double Row R/A Type; Manufacturer: Connfly; Part Number: DS-1026-06 - 2*23
footprint PBD2-46
pins: 1, 2, 3, 4, 5, 6, 7, 8, 9, 10, 11, 12, 13, 14, 15, 16, 17, 18, 19, 20, 21, 22, 23, 24, 25, 26, 27, 28, 29, 30, 31, 32, 33, 34, 35, 36, 37, 38, 39, 40, 41, 42, 43, 44, 45, 46
text: Конт.; Цепь

## PBD2-48
designator XS?, comment DS-1026-06 - 2*24
2.00mm Pin Socket Double Row R/A Type; Manufacturer: Connfly; Part Number: DS-1026-06 - 2*24
footprint PBD2-48
pins: 1, 2, 3, 4, 5, 6, 7, 8, 9, 10, 11, 12, 13, 14, 15, 16, 17, 18, 19, 20, 21, 22, 23, 24, 25, 26, 27, 28, 29, 30, 31, 32, 33, 34, 35, 36, 37, 38, 39, 40, 41, 42, 43, 44, 45, 46, 47, 48
text: Конт.; Цепь

## PBD2-50
designator XS?, comment DS-1026-06 - 2*25
2.00mm Pin Socket Double Row R/A Type; Manufacturer: Connfly; Part Number: DS-1026-06 - 2*25
footprint PBD2-50
pins: 1, 2, 3, 4, 5, 6, 7, 8, 9, 10, 11, 12, 13, 14, 15, 16, 17, 18, 19, 20, 21, 22, 23, 24, 25, 26, 27, 28, 29, 30, 31, 32, 33, 34, 35, 36, 37, 38, 39, 40, 41, 42, 43, 44, 45, 46, 47, 48, 49, 50
text: Конт.; Цепь

## PBD2-52
designator XS?, comment DS-1026-06 - 2*26
2.00mm Pin Socket Double Row R/A Type; Manufacturer: Connfly; Part Number: DS-1026-06 - 2*26
footprint PBD2-52
pins: 1, 2, 3, 4, 5, 6, 7, 8, 9, 10, 11, 12, 13, 14, 15, 16, 17, 18, 19, 20, 21, 22, 23, 24, 25, 26, 27, 28, 29, 30, 31, 32, 33, 34, 35, 36, 37, 38, 39, 40, 41, 42, 43, 44, 45, 46, 47, 48, 49, 50, 51, 52
text: Конт.; Цепь

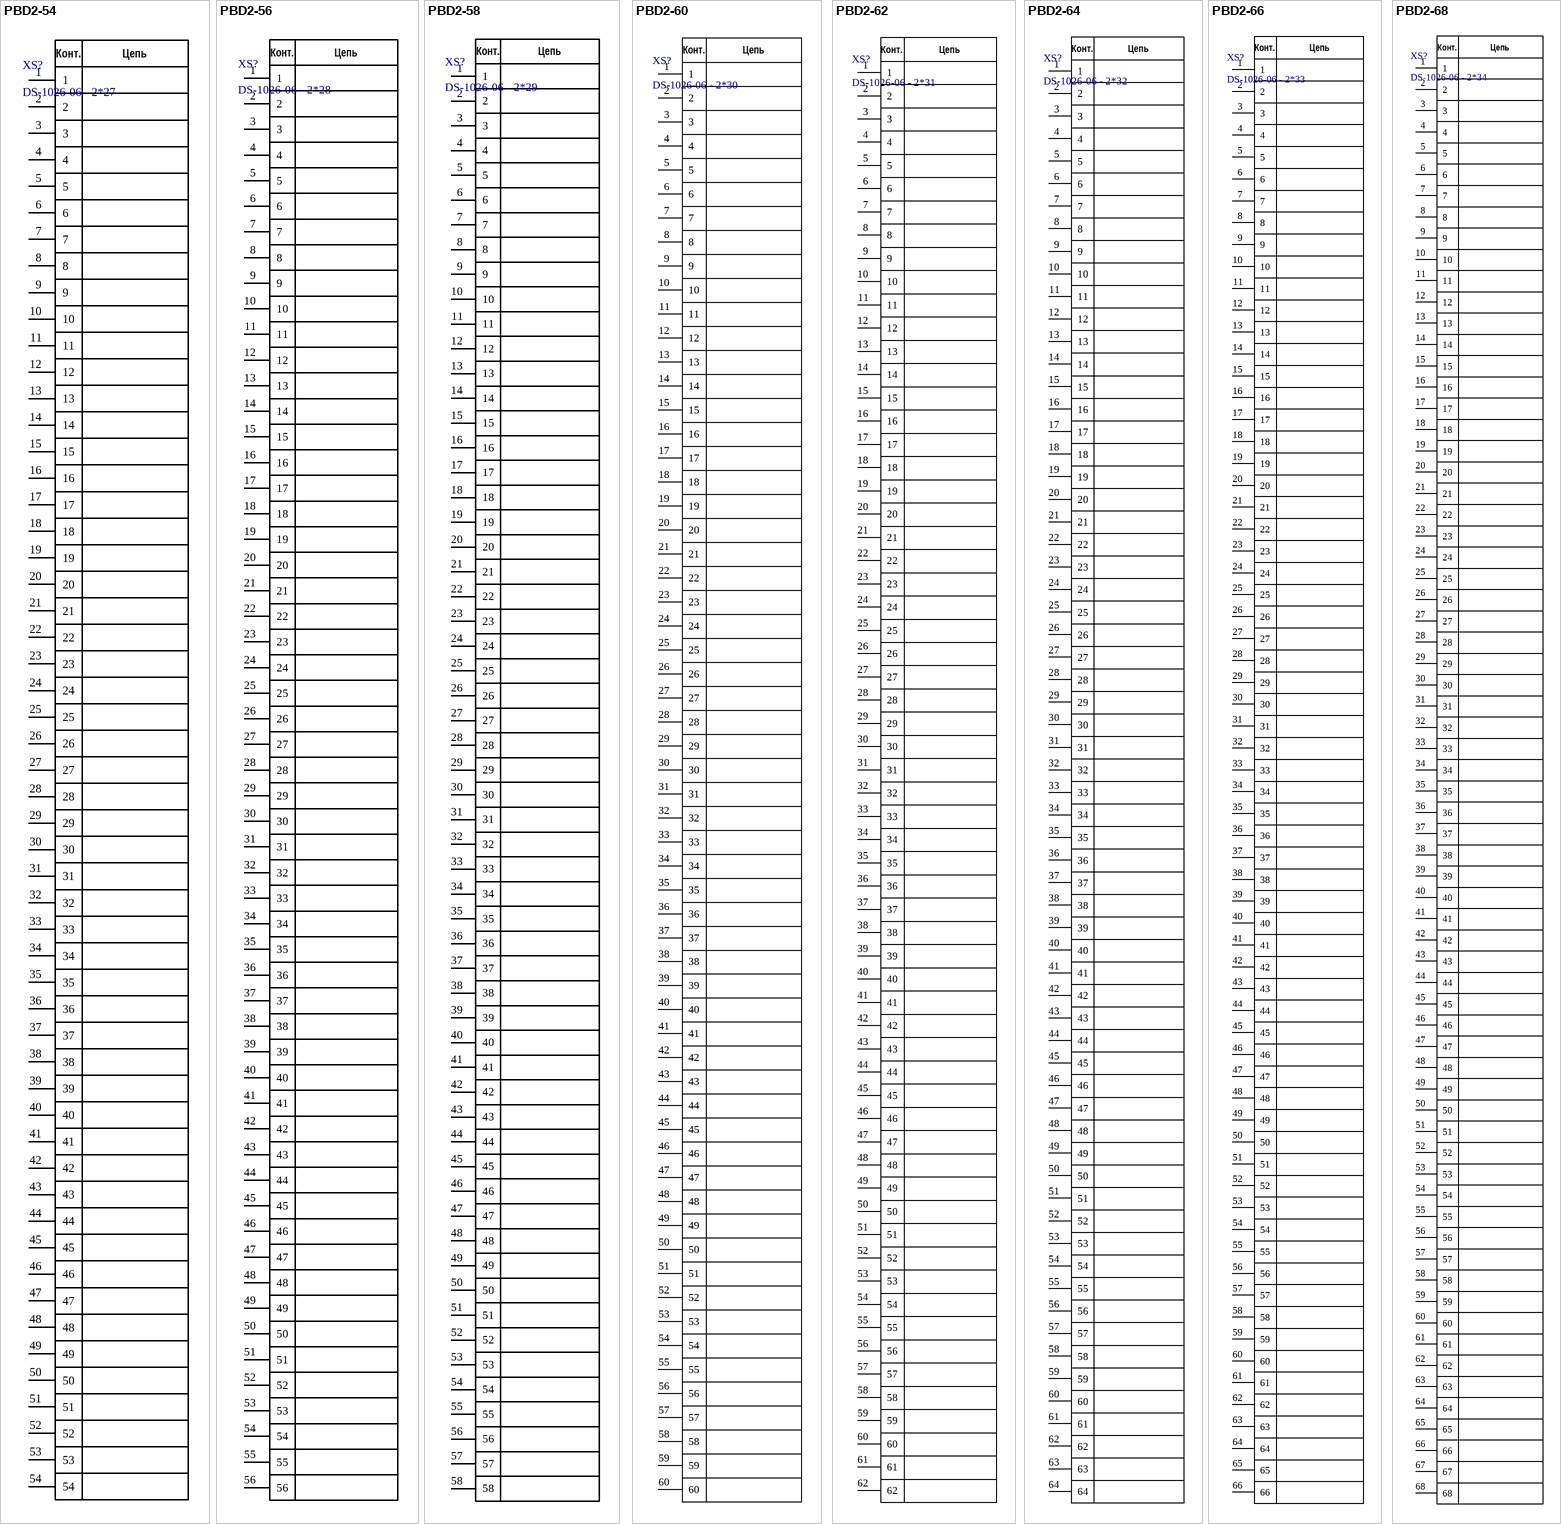
[diagram p6: symbols PBD2-54 to PBD2-68]

## PBD2-54
designator XS?, comment DS-1026-06 - 2*27
2.00mm Pin Socket Double Row R/A Type; Manufacturer: Connfly; Part Number: DS-1026-06 - 2*27
footprint PBD2-54
pins: 1, 2, 3, 4, 5, 6, 7, 8, 9, 10, 11, 12, 13, 14, 15, 16, 17, 18, 19, 20, 21, 22, 23, 24, 25, 26, 27, 28, 29, 30, 31, 32, 33, 34, 35, 36, 37, 38, 39, 40, 41, 42, 43, 44, 45, 46, 47, 48, 49, 50, 51, 52, 53, 54
text: Конт.; Цепь

## PBD2-56
designator XS?, comment DS-1026-06 - 2*28
2.00mm Pin Socket Double Row R/A Type; Manufacturer: Connfly; Part Number: DS-1026-06 - 2*28
footprint PBD2-56
pins: 1, 2, 3, 4, 5, 6, 7, 8, 9, 10, 11, 12, 13, 14, 15, 16, 17, 18, 19, 20, 21, 22, 23, 24, 25, 26, 27, 28, 29, 30, 31, 32, 33, 34, 35, 36, 37, 38, 39, 40, 41, 42, 43, 44, 45, 46, 47, 48, 49, 50, 51, 52, 53, 54, 55, 56
text: Конт.; Цепь

## PBD2-58
designator XS?, comment DS-1026-06 - 2*29
2.00mm Pin Socket Double Row R/A Type; Manufacturer: Connfly; Part Number: DS-1026-06 - 2*29
footprint PBD2-58
pins: 1, 2, 3, 4, 5, 6, 7, 8, 9, 10, 11, 12, 13, 14, 15, 16, 17, 18, 19, 20, 21, 22, 23, 24, 25, 26, 27, 28, 29, 30, 31, 32, 33, 34, 35, 36, 37, 38, 39, 40, 41, 42, 43, 44, 45, 46, 47, 48, 49, 50, 51, 52, 53, 54, 55, 56, 57, 58
text: Конт.; Цепь

## PBD2-60
designator XS?, comment DS-1026-06 - 2*30
2.00mm Pin Socket Double Row R/A Type; Manufacturer: Connfly; Part Number: DS-1026-06 - 2*30
footprint PBD2-60
pins: 1, 2, 3, 4, 5, 6, 7, 8, 9, 10, 11, 12, 13, 14, 15, 16, 17, 18, 19, 20, 21, 22, 23, 24, 25, 26, 27, 28, 29, 30, 31, 32, 33, 34, 35, 36, 37, 38, 39, 40, 41, 42, 43, 44, 45, 46, 47, 48, 49, 50, 51, 52, 53, 54, 55, 56, 57, 58, 59, 60
text: Конт.; Цепь

## PBD2-62
designator XS?, comment DS-1026-06 - 2*31
2.00mm Pin Socket Double Row R/A Type; Manufacturer: Connfly; Part Number: DS-1026-06 - 2*31
footprint PBD2-62
pins: 1, 2, 3, 4, 5, 6, 7, 8, 9, 10, 11, 12, 13, 14, 15, 16, 17, 18, 19, 20, 21, 22, 23, 24, 25, 26, 27, 28, 29, 30, 31, 32, 33, 34, 35, 36, 37, 38, 39, 40, 41, 42, 43, 44, 45, 46, 47, 48, 49, 50, 51, 52, 53, 54, 55, 56, 57, 58, 59, 60, 61, 62
text: Конт.; Цепь

## PBD2-64
designator XS?, comment DS-1026-06 - 2*32
2.00mm Pin Socket Double Row R/A Type; Manufacturer: Connfly; Part Number: DS-1026-06 - 2*32
footprint PBD2-64
pins: 1, 2, 3, 4, 5, 6, 7, 8, 9, 10, 11, 12, 13, 14, 15, 16, 17, 18, 19, 20, 21, 22, 23, 24, 25, 26, 27, 28, 29, 30, 31, 32, 33, 34, 35, 36, 37, 38, 39, 40, 41, 42, 43, 44, 45, 46, 47, 48, 49, 50, 51, 52, 53, 54, 55, 56, 57, 58, 59, 60, 61, 62, 63, 64
text: Конт.; Цепь

## PBD2-66
designator XS?, comment DS-1026-06 - 2*33
2.00mm Pin Socket Double Row R/A Type; Manufacturer: Connfly; Part Number: DS-1026-06 - 2*33
footprint PBD2-66
pins: 1, 2, 3, 4, 5, 6, 7, 8, 9, 10, 11, 12, 13, 14, 15, 16, 17, 18, 19, 20, 21, 22, 23, 24, 25, 26, 27, 28, 29, 30, 31, 32, 33, 34, 35, 36, 37, 38, 39, 40, 41, 42, 43, 44, 45, 46, 47, 48, 49, 50, 51, 52, 53, 54, 55, 56, 57, 58, 59, 60, 61, 62, 63, 64, 65, 66
text: Конт.; Цепь

## PBD2-68
designator XS?, comment DS-1026-06 - 2*34
2.00mm Pin Socket Double Row R/A Type; Manufacturer: Connfly; Part Number: DS-1026-06 - 2*34
footprint PBD2-68
pins: 1, 2, 3, 4, 5, 6, 7, 8, 9, 10, 11, 12, 13, 14, 15, 16, 17, 18, 19, 20, 21, 22, 23, 24, 25, 26, 27, 28, 29, 30, 31, 32, 33, 34, 35, 36, 37, 38, 39, 40, 41, 42, 43, 44, 45, 46, 47, 48, 49, 50, 51, 52, 53, 54, 55, 56, 57, 58, 59, 60, 61, 62, 63, 64, 65, 66, 67, 68
text: Конт.; Цепь

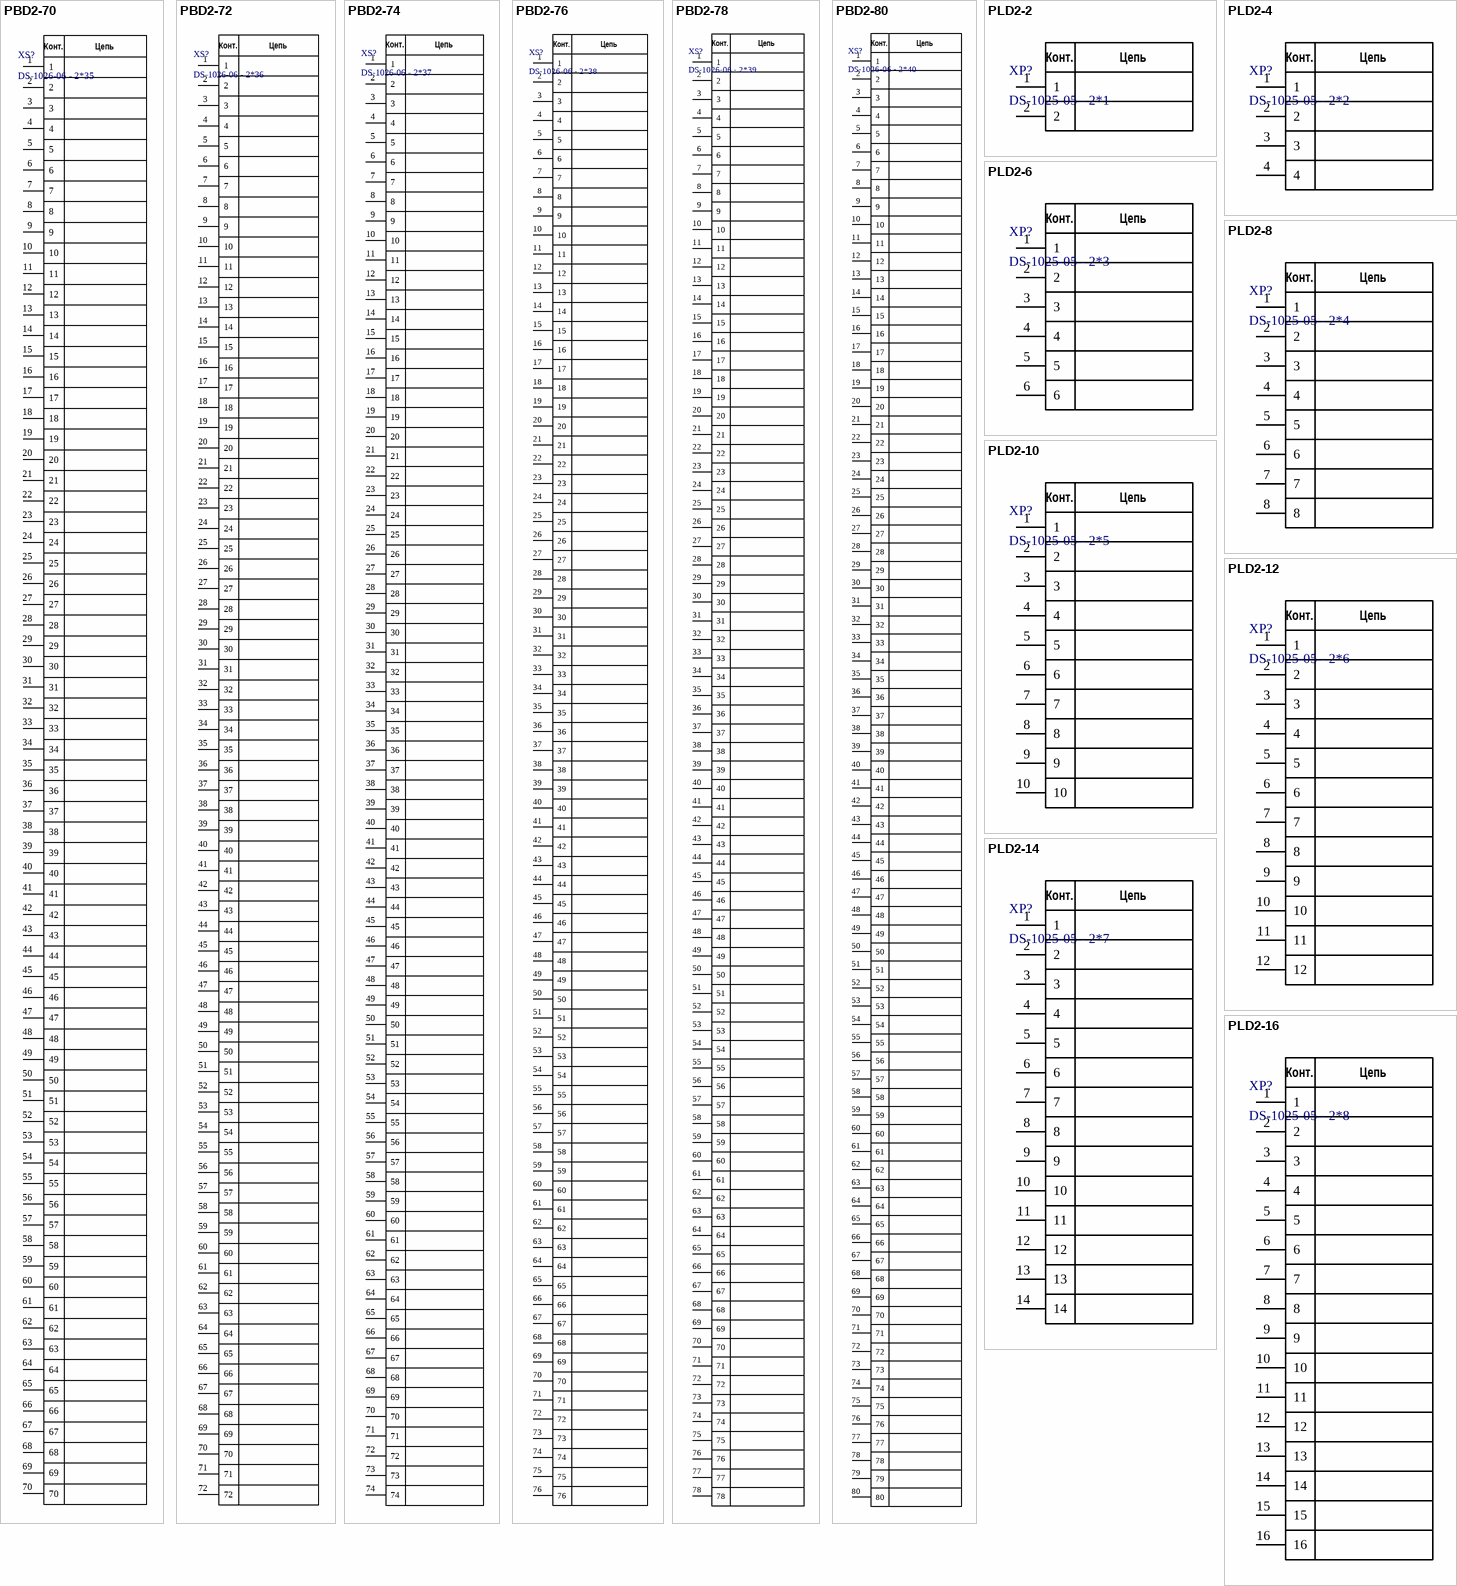
[diagram p7: symbols PBD2-70 to PLD2-16]

## PBD2-70
designator XS?, comment DS-1026-06 - 2*35
2.00mm Pin Socket Double Row R/A Type; Manufacturer: Connfly; Part Number: DS-1026-06 - 2*35
footprint PBD2-70
pins: 1, 2, 3, 4, 5, 6, 7, 8, 9, 10, 11, 12, 13, 14, 15, 16, 17, 18, 19, 20, 21, 22, 23, 24, 25, 26, 27, 28, 29, 30, 31, 32, 33, 34, 35, 36, 37, 38, 39, 40, 41, 42, 43, 44, 45, 46, 47, 48, 49, 50, 51, 52, 53, 54, 55, 56, 57, 58, 59, 60, 61, 62, 63, 64, 65, 66, 67, 68, 69, 70
text: Конт.; Цепь

## PBD2-72
designator XS?, comment DS-1026-06 - 2*36
2.00mm Pin Socket Double Row R/A Type; Manufacturer: Connfly; Part Number: DS-1026-06 - 2*36
footprint PBD2-72
pins: 1, 2, 3, 4, 5, 6, 7, 8, 9, 10, 11, 12, 13, 14, 15, 16, 17, 18, 19, 20, 21, 22, 23, 24, 25, 26, 27, 28, 29, 30, 31, 32, 33, 34, 35, 36, 37, 38, 39, 40, 41, 42, 43, 44, 45, 46, 47, 48, 49, 50, 51, 52, 53, 54, 55, 56, 57, 58, 59, 60, 61, 62, 63, 64, 65, 66, 67, 68, 69, 70, 71, 72
text: Конт.; Цепь

## PBD2-74
designator XS?, comment DS-1026-06 - 2*37
2.00mm Pin Socket Double Row R/A Type; Manufacturer: Connfly; Part Number: DS-1026-06 - 2*37
footprint PBD2-74
pins: 1, 2, 3, 4, 5, 6, 7, 8, 9, 10, 11, 12, 13, 14, 15, 16, 17, 18, 19, 20, 21, 22, 23, 24, 25, 26, 27, 28, 29, 30, 31, 32, 33, 34, 35, 36, 37, 38, 39, 40, 41, 42, 43, 44, 45, 46, 47, 48, 49, 50, 51, 52, 53, 54, 55, 56, 57, 58, 59, 60, 61, 62, 63, 64, 65, 66, 67, 68, 69, 70, 71, 72, 73, 74
text: Конт.; Цепь

## PBD2-76
designator XS?, comment DS-1026-06 - 2*38
2.00mm Pin Socket Double Row R/A Type; Manufacturer: Connfly; Part Number: DS-1026-06 - 2*38
footprint PBD2-76
pins: 1, 2, 3, 4, 5, 6, 7, 8, 9, 10, 11, 12, 13, 14, 15, 16, 17, 18, 19, 20, 21, 22, 23, 24, 25, 26, 27, 28, 29, 30, 31, 32, 33, 34, 35, 36, 37, 38, 39, 40, 41, 42, 43, 44, 45, 46, 47, 48, 49, 50, 51, 52, 53, 54, 55, 56, 57, 58, 59, 60, 61, 62, 63, 64, 65, 66, 67, 68, 69, 70, 71, 72, 73, 74, 75, 76
text: Конт.; Цепь

## PBD2-78
designator XS?, comment DS-1026-06 - 2*39
2.00mm Pin Socket Double Row R/A Type; Manufacturer: Connfly; Part Number: DS-1026-06 - 2*39
footprint PBD2-78
pins: 1, 2, 3, 4, 5, 6, 7, 8, 9, 10, 11, 12, 13, 14, 15, 16, 17, 18, 19, 20, 21, 22, 23, 24, 25, 26, 27, 28, 29, 30, 31, 32, 33, 34, 35, 36, 37, 38, 39, 40, 41, 42, 43, 44, 45, 46, 47, 48, 49, 50, 51, 52, 53, 54, 55, 56, 57, 58, 59, 60, 61, 62, 63, 64, 65, 66, 67, 68, 69, 70, 71, 72, 73, 74, 75, 76, 77, 78
text: Конт.; Цепь

## PBD2-80
designator XS?, comment DS-1026-06 - 2*40
2.00mm Pin Socket Double Row R/A Type; Manufacturer: Connfly; Part Number: DS-1026-06 - 2*40
footprint PBD2-80
pins: 1, 2, 3, 4, 5, 6, 7, 8, 9, 10, 11, 12, 13, 14, 15, 16, 17, 18, 19, 20, 21, 22, 23, 24, 25, 26, 27, 28, 29, 30, 31, 32, 33, 34, 35, 36, 37, 38, 39, 40, 41, 42, 43, 44, 45, 46, 47, 48, 49, 50, 51, 52, 53, 54, 55, 56, 57, 58, 59, 60, 61, 62, 63, 64, 65, 66, 67, 68, 69, 70, 71, 72, 73, 74, 75, 76, 77, 78, 79, 80
text: Конт.; Цепь

## PLD2-2
designator XP?, comment DS-1025-05 - 2*1
2.00mm Pin Header Double Row R/A Type; Manufacturer: Connfly; Part Number: DS-1025-05 - 2*1
footprint PLD2-2
pins: 1, 2
text: Конт.; Цепь

## PLD2-4
designator XP?, comment DS-1025-05 - 2*2
2.00mm Pin Header Double Row R/A Type; Manufacturer: Connfly; Part Number: DS-1025-05 - 2*2
footprint PLD2-4
pins: 1, 2, 3, 4
text: Конт.; Цепь

## PLD2-6
designator XP?, comment DS-1025-05 - 2*3
2.00mm Pin Header Double Row R/A Type; Manufacturer: Connfly; Part Number: DS-1025-05 - 2*3
footprint PLD2-6
pins: 1, 2, 3, 4, 5, 6
text: Конт.; Цепь

## PLD2-8
designator XP?, comment DS-1025-05 - 2*4
2.00mm Pin Header Double Row R/A Type; Manufacturer: Connfly; Part Number: DS-1025-05 - 2*4
footprint PLD2-8
pins: 1, 2, 3, 4, 5, 6, 7, 8
text: Конт.; Цепь

## PLD2-10
designator XP?, comment DS-1025-05 - 2*5
2.00mm Pin Header Double Row R/A Type; Manufacturer: Connfly; Part Number: DS-1025-05 - 2*5
footprint PLD2-10
pins: 1, 2, 3, 4, 5, 6, 7, 8, 9, 10
text: Конт.; Цепь

## PLD2-12
designator XP?, comment DS-1025-05 - 2*6
2.00mm Pin Header Double Row R/A Type; Manufacturer: Connfly; Part Number: DS-1025-05 - 2*6
footprint PLD2-12
pins: 1, 2, 3, 4, 5, 6, 7, 8, 9, 10, 11, 12
text: Конт.; Цепь

## PLD2-14
designator XP?, comment DS-1025-05 - 2*7
2.00mm Pin Header Double Row R/A Type; Manufacturer: Connfly; Part Number: DS-1025-05 - 2*7
footprint PLD2-14
pins: 1, 2, 3, 4, 5, 6, 7, 8, 9, 10, 11, 12, 13, 14
text: Конт.; Цепь

## PLD2-16
designator XP?, comment DS-1025-05 - 2*8
2.00mm Pin Header Double Row R/A Type; Manufacturer: Connfly; Part Number: DS-1025-05 - 2*8
footprint PLD2-16
pins: 1, 2, 3, 4, 5, 6, 7, 8, 9, 10, 11, 12, 13, 14, 15, 16
text: Конт.; Цепь

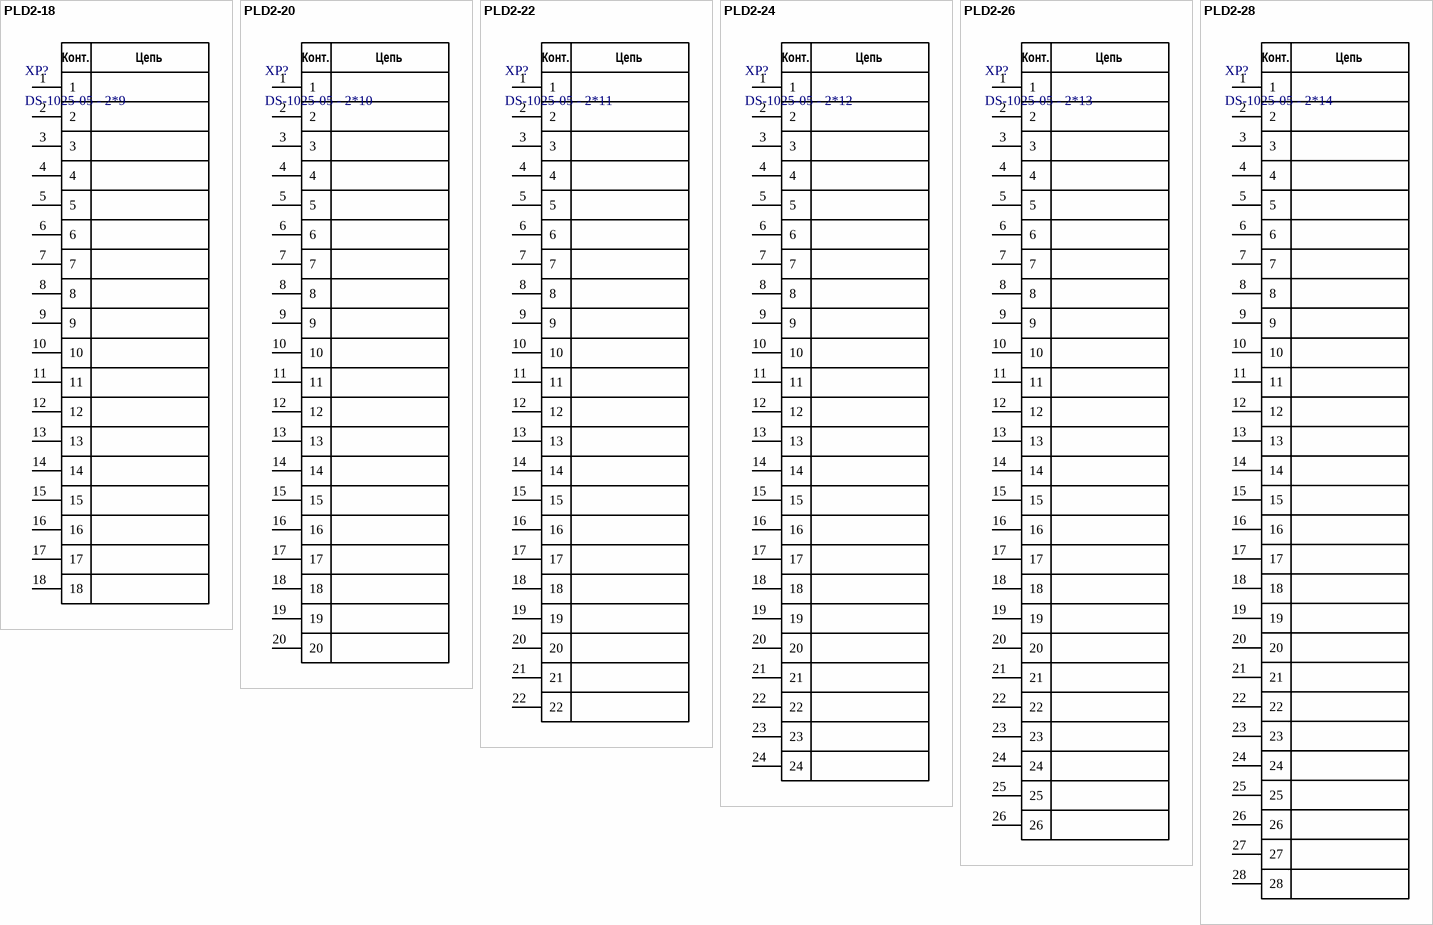
[diagram p8: symbols PLD2-18 to PLD2-28]

## PLD2-18
designator XP?, comment DS-1025-05 - 2*9
2.00mm Pin Header Double Row R/A Type; Manufacturer: Connfly; Part Number: DS-1025-05 - 2*9
footprint PLD2-18
pins: 1, 2, 3, 4, 5, 6, 7, 8, 9, 10, 11, 12, 13, 14, 15, 16, 17, 18
text: Конт.; Цепь

## PLD2-20
designator XP?, comment DS-1025-05 - 2*10
2.00mm Pin Header Double Row R/A Type; Manufacturer: Connfly; Part Number: DS-1025-05 - 2*10
footprint PLD2-20
pins: 1, 2, 3, 4, 5, 6, 7, 8, 9, 10, 11, 12, 13, 14, 15, 16, 17, 18, 19, 20
text: Конт.; Цепь

## PLD2-22
designator XP?, comment DS-1025-05 - 2*11
2.00mm Pin Header Double Row R/A Type; Manufacturer: Connfly; Part Number: DS-1025-05 - 2*11
footprint PLD2-22
pins: 1, 2, 3, 4, 5, 6, 7, 8, 9, 10, 11, 12, 13, 14, 15, 16, 17, 18, 19, 20, 21, 22
text: Конт.; Цепь

## PLD2-24
designator XP?, comment DS-1025-05 - 2*12
2.00mm Pin Header Double Row R/A Type; Manufacturer: Connfly; Part Number: DS-1025-05 - 2*12
footprint PLD2-24
pins: 1, 2, 3, 4, 5, 6, 7, 8, 9, 10, 11, 12, 13, 14, 15, 16, 17, 18, 19, 20, 21, 22, 23, 24
text: Конт.; Цепь

## PLD2-26
designator XP?, comment DS-1025-05 - 2*13
2.00mm Pin Header Double Row R/A Type; Manufacturer: Connfly; Part Number: DS-1025-05 - 2*13
footprint PLD2-26
pins: 1, 2, 3, 4, 5, 6, 7, 8, 9, 10, 11, 12, 13, 14, 15, 16, 17, 18, 19, 20, 21, 22, 23, 24, 25, 26
text: Конт.; Цепь

## PLD2-28
designator XP?, comment DS-1025-05 - 2*14
2.00mm Pin Header Double Row R/A Type; Manufacturer: Connfly; Part Number: DS-1025-05 - 2*14
footprint PLD2-28
pins: 1, 2, 3, 4, 5, 6, 7, 8, 9, 10, 11, 12, 13, 14, 15, 16, 17, 18, 19, 20, 21, 22, 23, 24, 25, 26, 27, 28
text: Конт.; Цепь

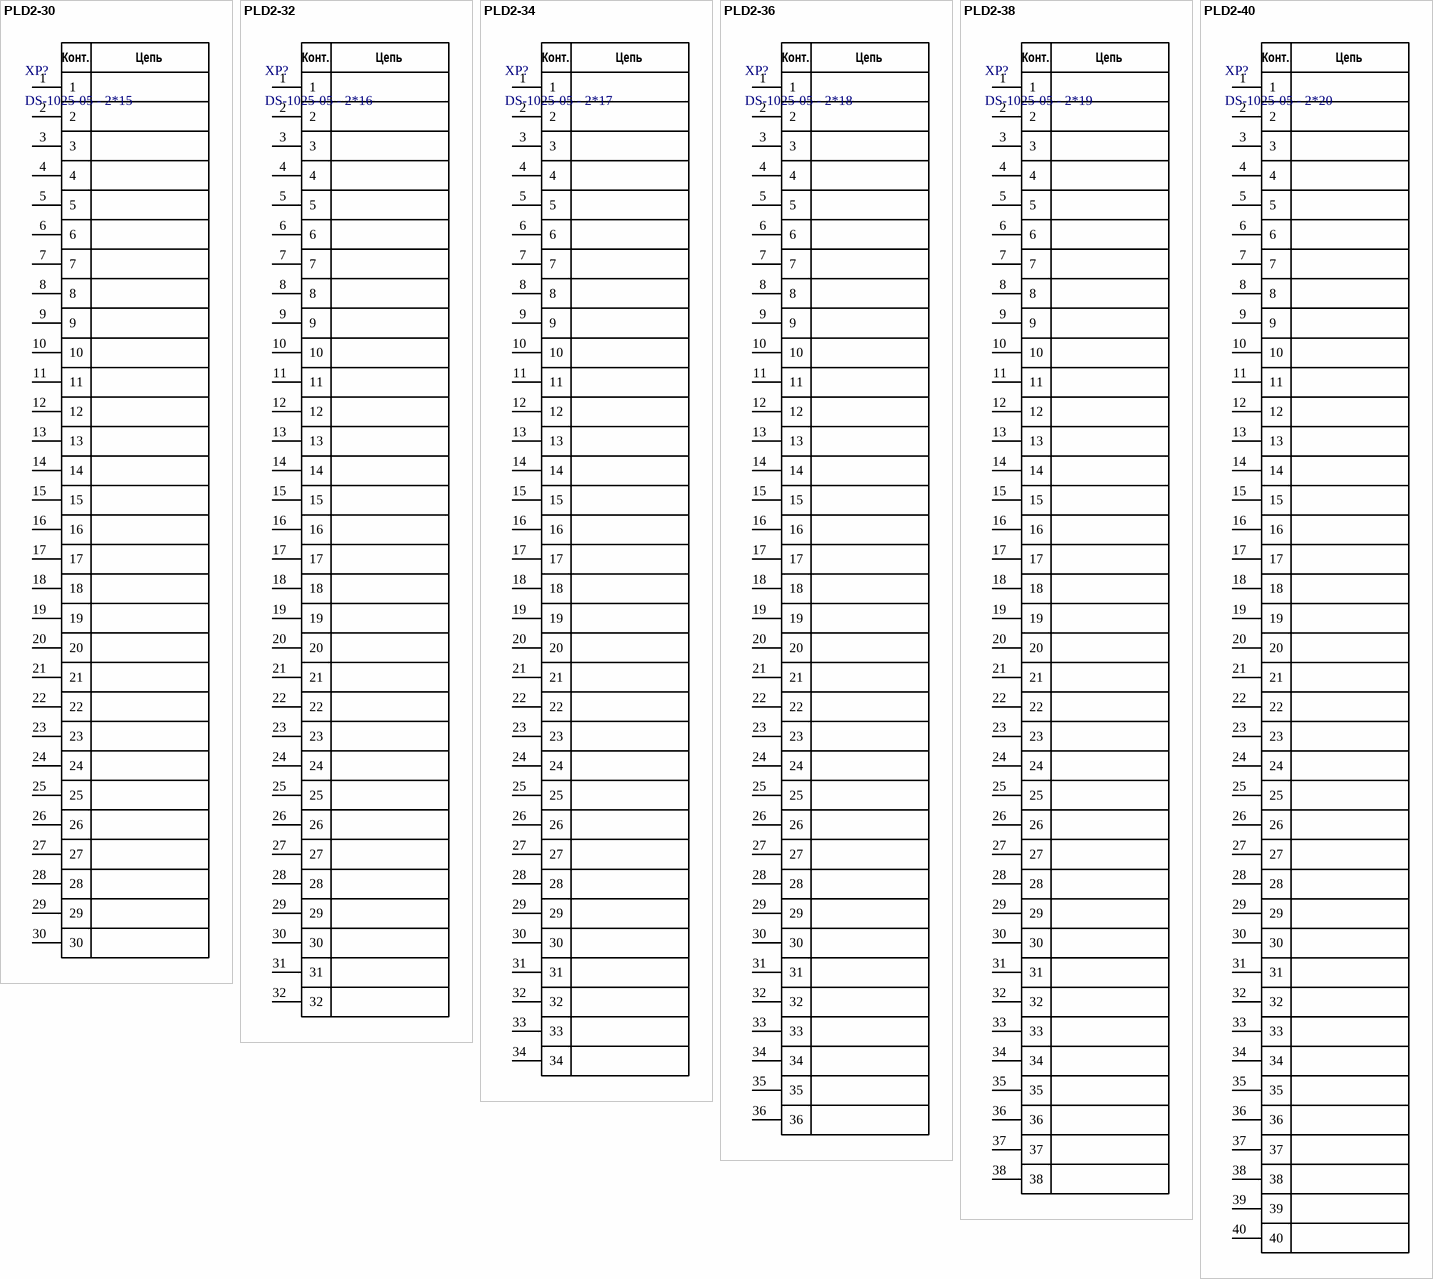
[diagram p9: symbols PLD2-30 to PLD2-40]

## PLD2-30
designator XP?, comment DS-1025-05 - 2*15
2.00mm Pin Header Double Row R/A Type; Manufacturer: Connfly; Part Number: DS-1025-05 - 2*15
footprint PLD2-30
pins: 1, 2, 3, 4, 5, 6, 7, 8, 9, 10, 11, 12, 13, 14, 15, 16, 17, 18, 19, 20, 21, 22, 23, 24, 25, 26, 27, 28, 29, 30
text: Конт.; Цепь

## PLD2-32
designator XP?, comment DS-1025-05 - 2*16
2.00mm Pin Header Double Row R/A Type; Manufacturer: Connfly; Part Number: DS-1025-05 - 2*16
footprint PLD2-32
pins: 1, 2, 3, 4, 5, 6, 7, 8, 9, 10, 11, 12, 13, 14, 15, 16, 17, 18, 19, 20, 21, 22, 23, 24, 25, 26, 27, 28, 29, 30, 31, 32
text: Конт.; Цепь

## PLD2-34
designator XP?, comment DS-1025-05 - 2*17
2.00mm Pin Header Double Row R/A Type; Manufacturer: Connfly; Part Number: DS-1025-05 - 2*17
footprint PLD2-34
pins: 1, 2, 3, 4, 5, 6, 7, 8, 9, 10, 11, 12, 13, 14, 15, 16, 17, 18, 19, 20, 21, 22, 23, 24, 25, 26, 27, 28, 29, 30, 31, 32, 33, 34
text: Конт.; Цепь

## PLD2-36
designator XP?, comment DS-1025-05 - 2*18
2.00mm Pin Header Double Row R/A Type; Manufacturer: Connfly; Part Number: DS-1025-05 - 2*18
footprint PLD2-36
pins: 1, 2, 3, 4, 5, 6, 7, 8, 9, 10, 11, 12, 13, 14, 15, 16, 17, 18, 19, 20, 21, 22, 23, 24, 25, 26, 27, 28, 29, 30, 31, 32, 33, 34, 35, 36
text: Конт.; Цепь

## PLD2-38
designator XP?, comment DS-1025-05 - 2*19
2.00mm Pin Header Double Row R/A Type; Manufacturer: Connfly; Part Number: DS-1025-05 - 2*19
footprint PLD2-38
pins: 1, 2, 3, 4, 5, 6, 7, 8, 9, 10, 11, 12, 13, 14, 15, 16, 17, 18, 19, 20, 21, 22, 23, 24, 25, 26, 27, 28, 29, 30, 31, 32, 33, 34, 35, 36, 37, 38
text: Конт.; Цепь

## PLD2-40
designator XP?, comment DS-1025-05 - 2*20
2.00mm Pin Header Double Row R/A Type; Manufacturer: Connfly; Part Number: DS-1025-05 - 2*20
footprint PLD2-40
pins: 1, 2, 3, 4, 5, 6, 7, 8, 9, 10, 11, 12, 13, 14, 15, 16, 17, 18, 19, 20, 21, 22, 23, 24, 25, 26, 27, 28, 29, 30, 31, 32, 33, 34, 35, 36, 37, 38, 39, 40
text: Конт.; Цепь

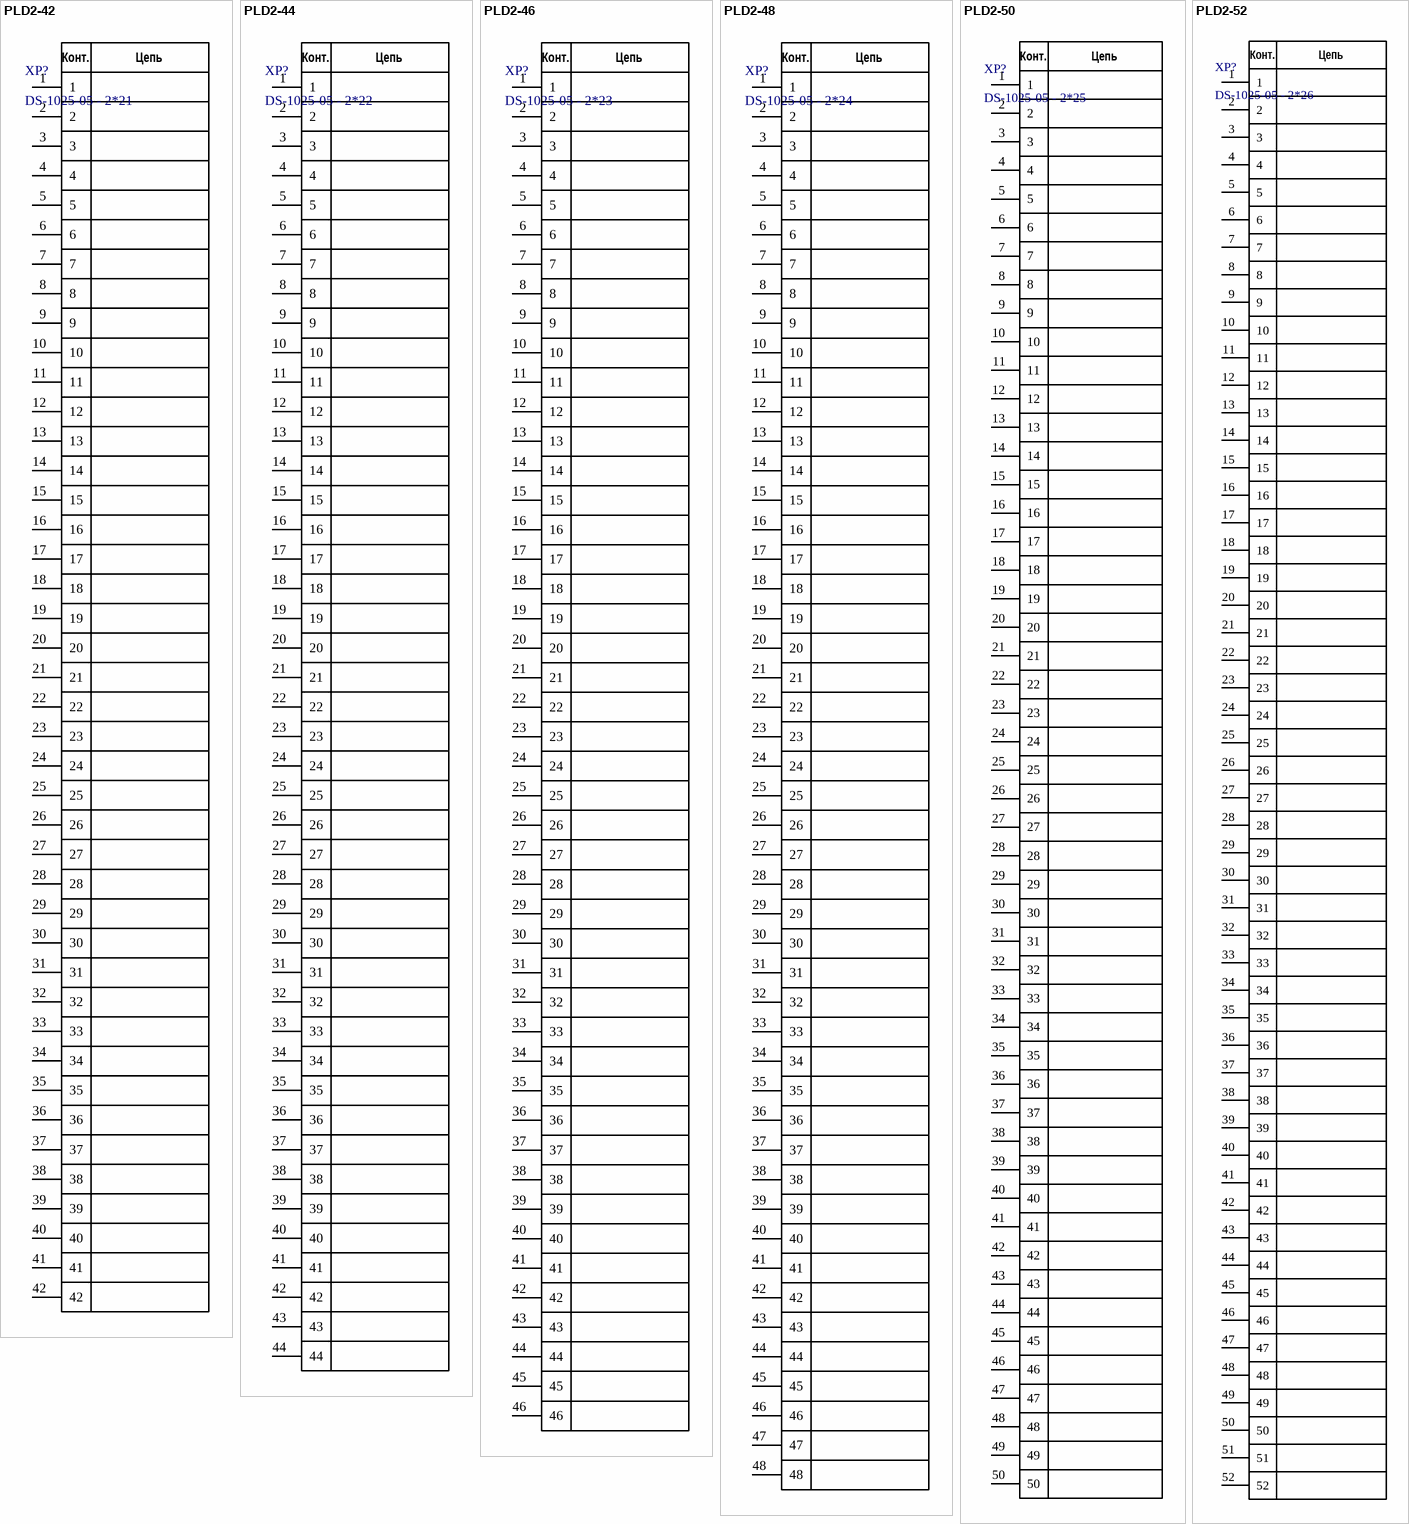
[diagram p10: symbols PLD2-42 to PLD2-52]

## PLD2-42
designator XP?, comment DS-1025-05 - 2*21
2.00mm Pin Header Double Row R/A Type; Manufacturer: Connfly; Part Number: DS-1025-05 - 2*21
footprint PLD2-42
pins: 1, 2, 3, 4, 5, 6, 7, 8, 9, 10, 11, 12, 13, 14, 15, 16, 17, 18, 19, 20, 21, 22, 23, 24, 25, 26, 27, 28, 29, 30, 31, 32, 33, 34, 35, 36, 37, 38, 39, 40, 41, 42
text: Конт.; Цепь

## PLD2-44
designator XP?, comment DS-1025-05 - 2*22
2.00mm Pin Header Double Row R/A Type; Manufacturer: Connfly; Part Number: DS-1025-05 - 2*22
footprint PLD2-44
pins: 1, 2, 3, 4, 5, 6, 7, 8, 9, 10, 11, 12, 13, 14, 15, 16, 17, 18, 19, 20, 21, 22, 23, 24, 25, 26, 27, 28, 29, 30, 31, 32, 33, 34, 35, 36, 37, 38, 39, 40, 41, 42, 43, 44
text: Конт.; Цепь

## PLD2-46
designator XP?, comment DS-1025-05 - 2*23
2.00mm Pin Header Double Row R/A Type; Manufacturer: Connfly; Part Number: DS-1025-05 - 2*23
footprint PLD2-46
pins: 1, 2, 3, 4, 5, 6, 7, 8, 9, 10, 11, 12, 13, 14, 15, 16, 17, 18, 19, 20, 21, 22, 23, 24, 25, 26, 27, 28, 29, 30, 31, 32, 33, 34, 35, 36, 37, 38, 39, 40, 41, 42, 43, 44, 45, 46
text: Конт.; Цепь

## PLD2-48
designator XP?, comment DS-1025-05 - 2*24
2.00mm Pin Header Double Row R/A Type; Manufacturer: Connfly; Part Number: DS-1025-05 - 2*24
footprint PLD2-48
pins: 1, 2, 3, 4, 5, 6, 7, 8, 9, 10, 11, 12, 13, 14, 15, 16, 17, 18, 19, 20, 21, 22, 23, 24, 25, 26, 27, 28, 29, 30, 31, 32, 33, 34, 35, 36, 37, 38, 39, 40, 41, 42, 43, 44, 45, 46, 47, 48
text: Конт.; Цепь

## PLD2-50
designator XP?, comment DS-1025-05 - 2*25
2.00mm Pin Header Double Row R/A Type; Manufacturer: Connfly; Part Number: DS-1025-05 - 2*25
footprint PLD2-50
pins: 1, 2, 3, 4, 5, 6, 7, 8, 9, 10, 11, 12, 13, 14, 15, 16, 17, 18, 19, 20, 21, 22, 23, 24, 25, 26, 27, 28, 29, 30, 31, 32, 33, 34, 35, 36, 37, 38, 39, 40, 41, 42, 43, 44, 45, 46, 47, 48, 49, 50
text: Конт.; Цепь

## PLD2-52
designator XP?, comment DS-1025-05 - 2*26
2.00mm Pin Header Double Row R/A Type; Manufacturer: Connfly; Part Number: DS-1025-05 - 2*26
footprint PLD2-52
pins: 1, 2, 3, 4, 5, 6, 7, 8, 9, 10, 11, 12, 13, 14, 15, 16, 17, 18, 19, 20, 21, 22, 23, 24, 25, 26, 27, 28, 29, 30, 31, 32, 33, 34, 35, 36, 37, 38, 39, 40, 41, 42, 43, 44, 45, 46, 47, 48, 49, 50, 51, 52
text: Конт.; Цепь

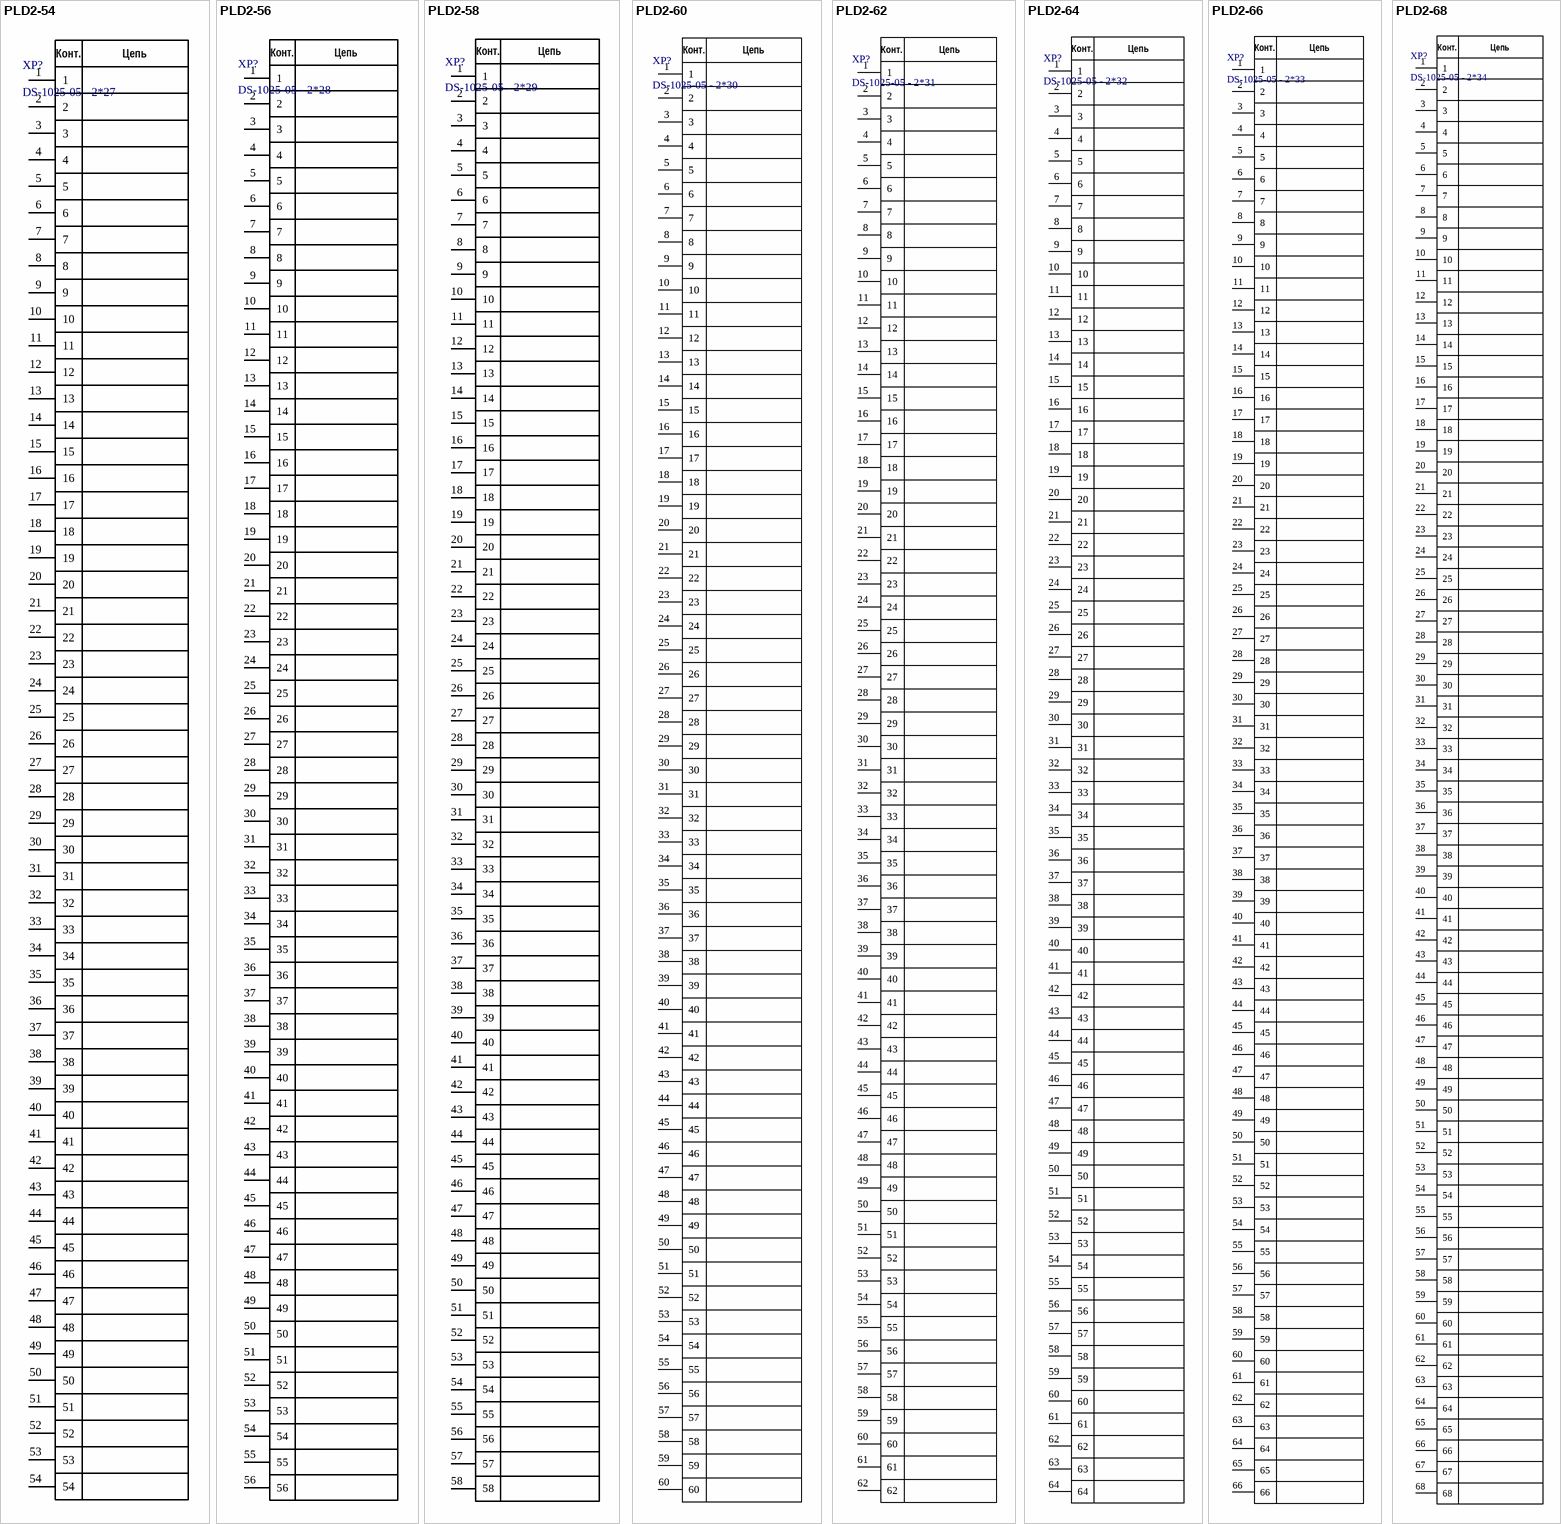
[diagram p11: symbols PLD2-54 to PLD2-68]

## PLD2-54
designator XP?, comment DS-1025-05 - 2*27
2.00mm Pin Header Double Row R/A Type; Manufacturer: Connfly; Part Number: DS-1025-05 - 2*27
footprint PLD2-54
pins: 1, 2, 3, 4, 5, 6, 7, 8, 9, 10, 11, 12, 13, 14, 15, 16, 17, 18, 19, 20, 21, 22, 23, 24, 25, 26, 27, 28, 29, 30, 31, 32, 33, 34, 35, 36, 37, 38, 39, 40, 41, 42, 43, 44, 45, 46, 47, 48, 49, 50, 51, 52, 53, 54
text: Конт.; Цепь

## PLD2-56
designator XP?, comment DS-1025-05 - 2*28
2.00mm Pin Header Double Row R/A Type; Manufacturer: Connfly; Part Number: DS-1025-05 - 2*28
footprint PLD2-56
pins: 1, 2, 3, 4, 5, 6, 7, 8, 9, 10, 11, 12, 13, 14, 15, 16, 17, 18, 19, 20, 21, 22, 23, 24, 25, 26, 27, 28, 29, 30, 31, 32, 33, 34, 35, 36, 37, 38, 39, 40, 41, 42, 43, 44, 45, 46, 47, 48, 49, 50, 51, 52, 53, 54, 55, 56
text: Конт.; Цепь

## PLD2-58
designator XP?, comment DS-1025-05 - 2*29
2.00mm Pin Header Double Row R/A Type; Manufacturer: Connfly; Part Number: DS-1025-05 - 2*29
footprint PLD2-58
pins: 1, 2, 3, 4, 5, 6, 7, 8, 9, 10, 11, 12, 13, 14, 15, 16, 17, 18, 19, 20, 21, 22, 23, 24, 25, 26, 27, 28, 29, 30, 31, 32, 33, 34, 35, 36, 37, 38, 39, 40, 41, 42, 43, 44, 45, 46, 47, 48, 49, 50, 51, 52, 53, 54, 55, 56, 57, 58
text: Конт.; Цепь

## PLD2-60
designator XP?, comment DS-1025-05 - 2*30
2.00mm Pin Header Double Row R/A Type; Manufacturer: Connfly; Part Number: DS-1025-05 - 2*30
footprint PLD2-60
pins: 1, 2, 3, 4, 5, 6, 7, 8, 9, 10, 11, 12, 13, 14, 15, 16, 17, 18, 19, 20, 21, 22, 23, 24, 25, 26, 27, 28, 29, 30, 31, 32, 33, 34, 35, 36, 37, 38, 39, 40, 41, 42, 43, 44, 45, 46, 47, 48, 49, 50, 51, 52, 53, 54, 55, 56, 57, 58, 59, 60
text: Конт.; Цепь

## PLD2-62
designator XP?, comment DS-1025-05 - 2*31
2.00mm Pin Header Double Row R/A Type; Manufacturer: Connfly; Part Number: DS-1025-05 - 2*31
footprint PLD2-62
pins: 1, 2, 3, 4, 5, 6, 7, 8, 9, 10, 11, 12, 13, 14, 15, 16, 17, 18, 19, 20, 21, 22, 23, 24, 25, 26, 27, 28, 29, 30, 31, 32, 33, 34, 35, 36, 37, 38, 39, 40, 41, 42, 43, 44, 45, 46, 47, 48, 49, 50, 51, 52, 53, 54, 55, 56, 57, 58, 59, 60, 61, 62
text: Конт.; Цепь

## PLD2-64
designator XP?, comment DS-1025-05 - 2*32
2.00mm Pin Header Double Row R/A Type; Manufacturer: Connfly; Part Number: DS-1025-05 - 2*32
footprint PLD2-64
pins: 1, 2, 3, 4, 5, 6, 7, 8, 9, 10, 11, 12, 13, 14, 15, 16, 17, 18, 19, 20, 21, 22, 23, 24, 25, 26, 27, 28, 29, 30, 31, 32, 33, 34, 35, 36, 37, 38, 39, 40, 41, 42, 43, 44, 45, 46, 47, 48, 49, 50, 51, 52, 53, 54, 55, 56, 57, 58, 59, 60, 61, 62, 63, 64
text: Конт.; Цепь

## PLD2-66
designator XP?, comment DS-1025-05 - 2*33
2.00mm Pin Header Double Row R/A Type; Manufacturer: Connfly; Part Number: DS-1025-05 - 2*33
footprint PLD2-66
pins: 1, 2, 3, 4, 5, 6, 7, 8, 9, 10, 11, 12, 13, 14, 15, 16, 17, 18, 19, 20, 21, 22, 23, 24, 25, 26, 27, 28, 29, 30, 31, 32, 33, 34, 35, 36, 37, 38, 39, 40, 41, 42, 43, 44, 45, 46, 47, 48, 49, 50, 51, 52, 53, 54, 55, 56, 57, 58, 59, 60, 61, 62, 63, 64, 65, 66
text: Конт.; Цепь

## PLD2-68
designator XP?, comment DS-1025-05 - 2*34
2.00mm Pin Header Double Row R/A Type; Manufacturer: Connfly; Part Number: DS-1025-05 - 2*34
footprint PLD2-68
pins: 1, 2, 3, 4, 5, 6, 7, 8, 9, 10, 11, 12, 13, 14, 15, 16, 17, 18, 19, 20, 21, 22, 23, 24, 25, 26, 27, 28, 29, 30, 31, 32, 33, 34, 35, 36, 37, 38, 39, 40, 41, 42, 43, 44, 45, 46, 47, 48, 49, 50, 51, 52, 53, 54, 55, 56, 57, 58, 59, 60, 61, 62, 63, 64, 65, 66, 67, 68
text: Конт.; Цепь

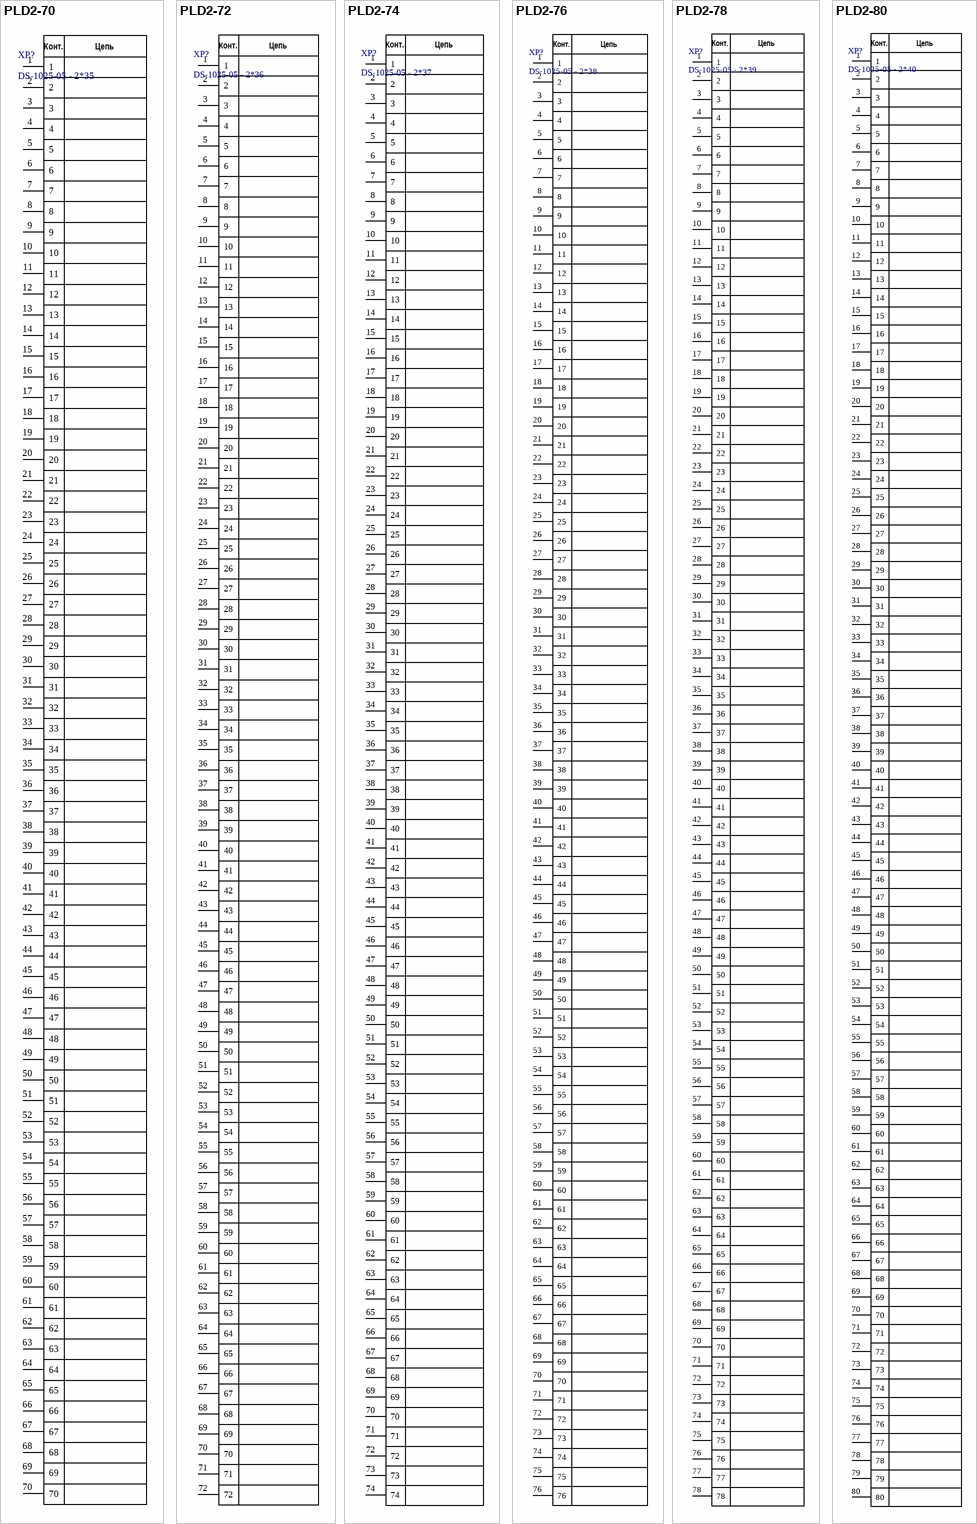
[diagram p12: symbols PLD2-70 to PLD2-80]

## PLD2-70
designator XP?, comment DS-1025-05 - 2*35
2.00mm Pin Header Double Row R/A Type; Manufacturer: Connfly; Part Number: DS-1025-05 - 2*35
footprint PLD2-70
pins: 1, 2, 3, 4, 5, 6, 7, 8, 9, 10, 11, 12, 13, 14, 15, 16, 17, 18, 19, 20, 21, 22, 23, 24, 25, 26, 27, 28, 29, 30, 31, 32, 33, 34, 35, 36, 37, 38, 39, 40, 41, 42, 43, 44, 45, 46, 47, 48, 49, 50, 51, 52, 53, 54, 55, 56, 57, 58, 59, 60, 61, 62, 63, 64, 65, 66, 67, 68, 69, 70
text: Конт.; Цепь

## PLD2-72
designator XP?, comment DS-1025-05 - 2*36
2.00mm Pin Header Double Row R/A Type; Manufacturer: Connfly; Part Number: DS-1025-05 - 2*36
footprint PLD2-72
pins: 1, 2, 3, 4, 5, 6, 7, 8, 9, 10, 11, 12, 13, 14, 15, 16, 17, 18, 19, 20, 21, 22, 23, 24, 25, 26, 27, 28, 29, 30, 31, 32, 33, 34, 35, 36, 37, 38, 39, 40, 41, 42, 43, 44, 45, 46, 47, 48, 49, 50, 51, 52, 53, 54, 55, 56, 57, 58, 59, 60, 61, 62, 63, 64, 65, 66, 67, 68, 69, 70, 71, 72
text: Конт.; Цепь

## PLD2-74
designator XP?, comment DS-1025-05 - 2*37
2.00mm Pin Header Double Row R/A Type; Manufacturer: Connfly; Part Number: DS-1025-05 - 2*37
footprint PLD2-74
pins: 1, 2, 3, 4, 5, 6, 7, 8, 9, 10, 11, 12, 13, 14, 15, 16, 17, 18, 19, 20, 21, 22, 23, 24, 25, 26, 27, 28, 29, 30, 31, 32, 33, 34, 35, 36, 37, 38, 39, 40, 41, 42, 43, 44, 45, 46, 47, 48, 49, 50, 51, 52, 53, 54, 55, 56, 57, 58, 59, 60, 61, 62, 63, 64, 65, 66, 67, 68, 69, 70, 71, 72, 73, 74
text: Конт.; Цепь

## PLD2-76
designator XP?, comment DS-1025-05 - 2*38
2.00mm Pin Header Double Row R/A Type; Manufacturer: Connfly; Part Number: DS-1025-05 - 2*38
footprint PLD2-76
pins: 1, 2, 3, 4, 5, 6, 7, 8, 9, 10, 11, 12, 13, 14, 15, 16, 17, 18, 19, 20, 21, 22, 23, 24, 25, 26, 27, 28, 29, 30, 31, 32, 33, 34, 35, 36, 37, 38, 39, 40, 41, 42, 43, 44, 45, 46, 47, 48, 49, 50, 51, 52, 53, 54, 55, 56, 57, 58, 59, 60, 61, 62, 63, 64, 65, 66, 67, 68, 69, 70, 71, 72, 73, 74, 75, 76
text: Конт.; Цепь

## PLD2-78
designator XP?, comment DS-1025-05 - 2*39
2.00mm Pin Header Double Row R/A Type; Manufacturer: Connfly; Part Number: DS-1025-05 - 2*39
footprint PLD2-78
pins: 1, 2, 3, 4, 5, 6, 7, 8, 9, 10, 11, 12, 13, 14, 15, 16, 17, 18, 19, 20, 21, 22, 23, 24, 25, 26, 27, 28, 29, 30, 31, 32, 33, 34, 35, 36, 37, 38, 39, 40, 41, 42, 43, 44, 45, 46, 47, 48, 49, 50, 51, 52, 53, 54, 55, 56, 57, 58, 59, 60, 61, 62, 63, 64, 65, 66, 67, 68, 69, 70, 71, 72, 73, 74, 75, 76, 77, 78
text: Конт.; Цепь

## PLD2-80
designator XP?, comment DS-1025-05 - 2*40
2.00mm Pin Header Double Row R/A Type; Manufacturer: Connfly; Part Number: DS-1025-05 - 2*40
footprint PLD2-80
pins: 1, 2, 3, 4, 5, 6, 7, 8, 9, 10, 11, 12, 13, 14, 15, 16, 17, 18, 19, 20, 21, 22, 23, 24, 25, 26, 27, 28, 29, 30, 31, 32, 33, 34, 35, 36, 37, 38, 39, 40, 41, 42, 43, 44, 45, 46, 47, 48, 49, 50, 51, 52, 53, 54, 55, 56, 57, 58, 59, 60, 61, 62, 63, 64, 65, 66, 67, 68, 69, 70, 71, 72, 73, 74, 75, 76, 77, 78, 79, 80
text: Конт.; Цепь